# Altium schematic symbol library AnalogDevices.SchLib: 130 symbols (part 2 of 5)
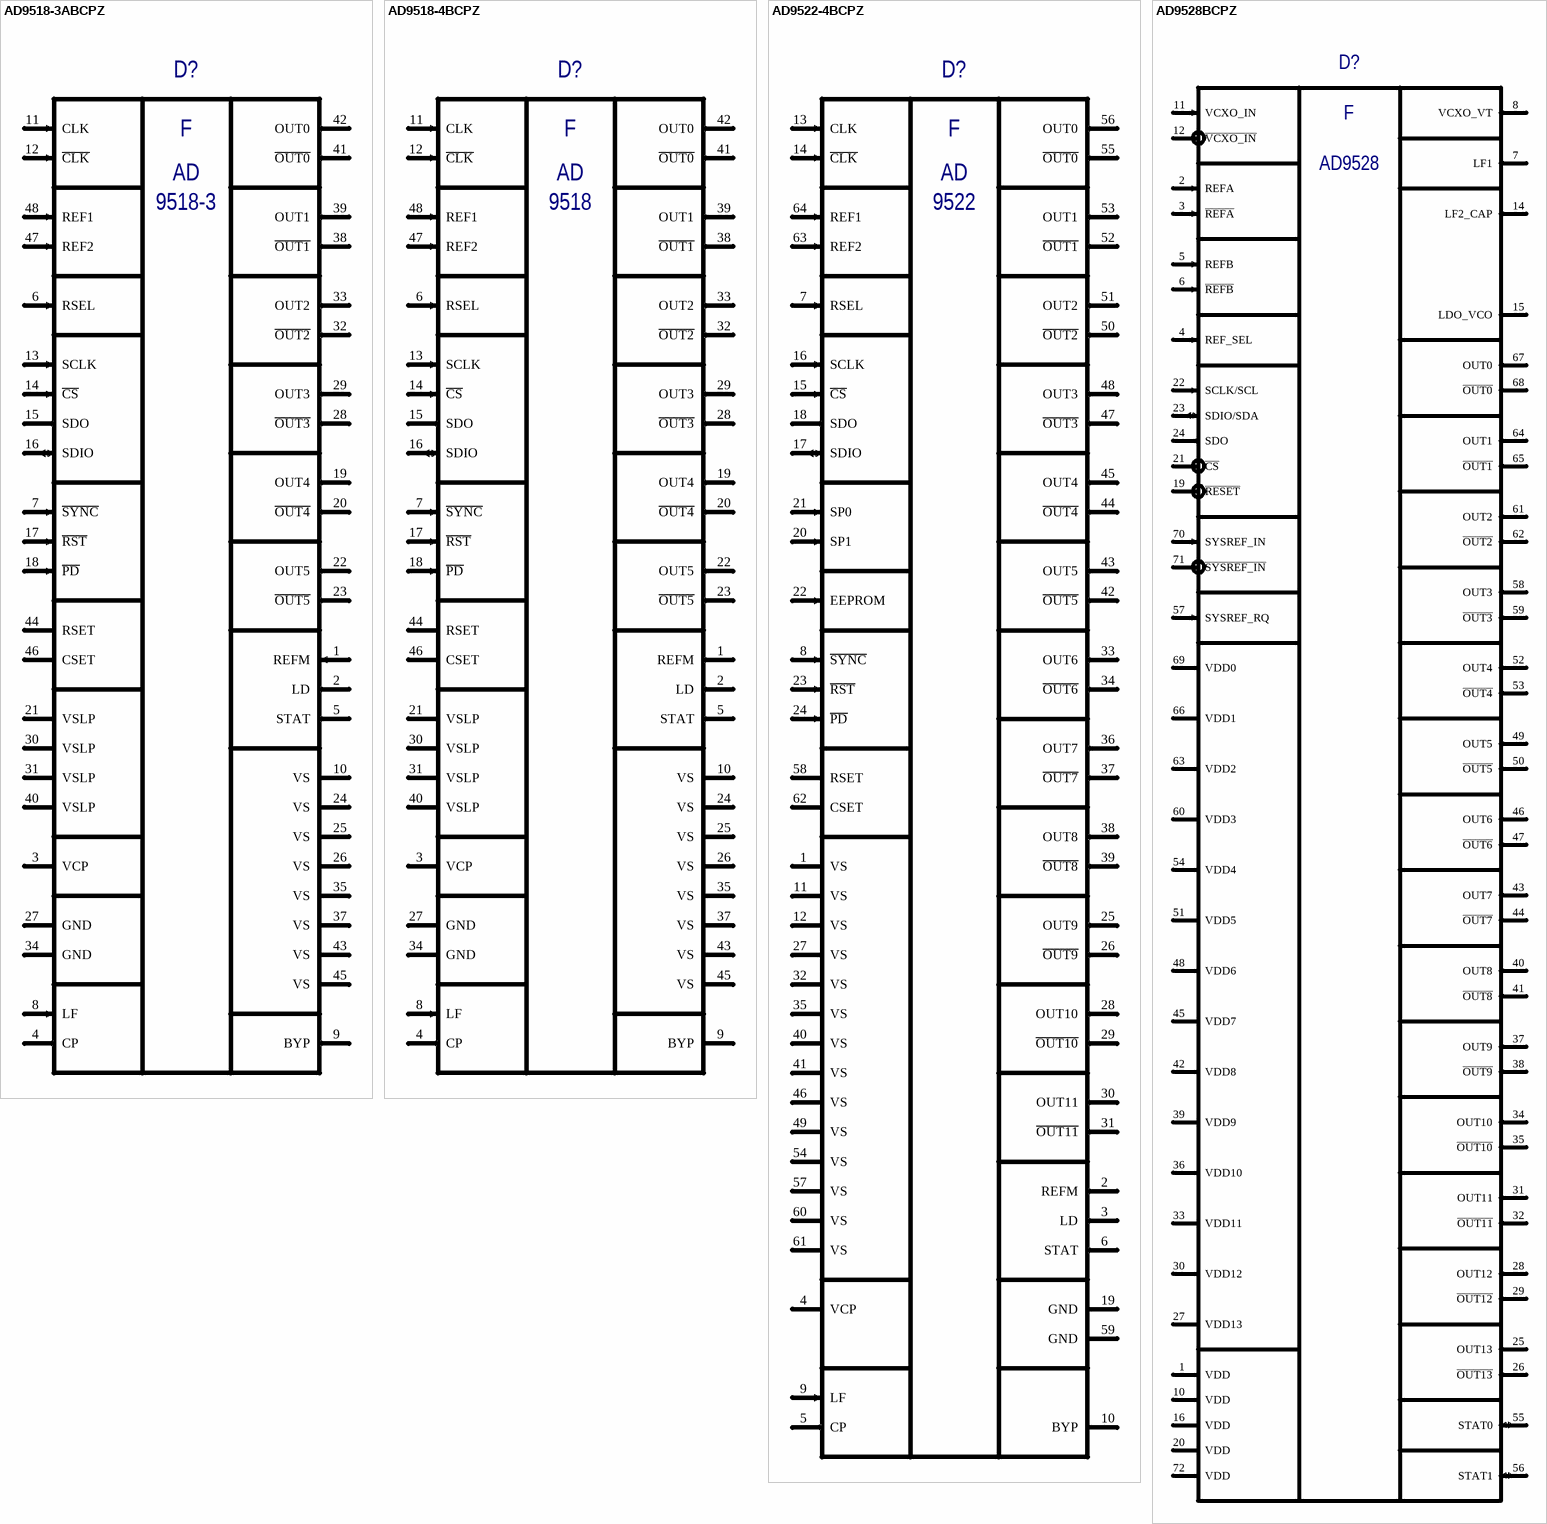
[diagram p22: symbols AD9518-3ABCPZ to AD9528BCPZ]

## AD9528BCPZ
designator D?  (value not drawn)
JESD204B Clock Generator with 14 LVDS/HSTL Outputs; Manufacturer: Analog Devices; Type: Микросхема; SymAuthor: Ерешко П.А.; Package: CP-72-6; ManufacturerPartNumber: AD9528BCPZ
footprint QFN50P1000X1000X100_HS-73N (QFN, 72-Leads, Body 10,00x10,00mm, Pitch 0,50mm, Thermal Pad 5,45x5,45mm, IPC Medium Density)
pins: 1 VDD (power) "3.3 V Supply for the PLL1  Input Section", 2 REFA (in) "Reference Clock Input A", 3 ~{REFA} (in) "Complementary Reference Clock Input A", 4 REF_SEL (in) "Reference Input Select", 5 REFB (in) "Reference Clock Input B", 6 ~{REFB} (in) "Complementary Reference Clock Input B", 7 LF1 (out) "PLL1 External Loop Filter", 8 VCXO_VT (out) "VCXO Control Voltage", 9 NIC hidden "No Internal Connection. The pin can be left floating", 10 VDD (power) "3.3 V Supply for the PLL2 Section", 11 VCXO_IN (in) "PLL1 Oscillator Input", 12 ~{VCXO_IN} (in) "Complementary PLL1 Oscillator Input", 13 NIC hidden "No Internal Connection. The pin can be left floating", 14 LF2_CAP (out) "PLL2 External Loop Filter Capacitor Connection", 15 LDO_VCO "2.5 V LDO Internal Regulator Decoupling for the VCO", 16 VDD (power) "3.3 V Supply for the PLL2 Internal Regulator", 17 NIC hidden "No Internal Connection. The pin can be left floating", 18 NIC hidden "No Internal Connection. The pin can be left floating", 19 ~{RESET} (in) "Digital Input(Active Low). Resets internal logic to default states", 20 VDD (power) "3.3 V Supply for the PLL2 Internal Regulator", 21 ~{CS} (in) "Serial Control Port Chip Select", 22 SCLK/SCL (in) "Serial Control Port Clock Signal", 23 SDIO/SDA (io) "Serial Control Port Bidirectional Serial Data", 24 SDO (out) "Serial Data Output", 25 OUT13 (out) "Square Wave Clocking Output 13", 26 ~{OUT13} (out) "Complementary Square Wave Clocking Output 13", 27 VDD13 (power) "3.3 V Supply for the Output 13 Clock Driver", 28 OUT12 (out) "Square Wave Clocking Output 12", 29 ~{OUT12} (out) "Complementary Square Wave Clocking Output 12", 30 VDD12 (power) "3.3 V Supply for the Output 12 Clock Divider", 31 OUT11 (out) "Square Wave Clocking Output 11", 32 ~{OUT11} (out) "Complementary Square Wave Clocking Output 11", 33 VDD11 (power) "3.3 V Supply for the Output 11 Clock Driver", 34 OUT10 (out) "Square Wave Clocking Output 10", 35 ~{OUT10} (out) "Complementary Square Wave Clocking Output 10", 36 VDD10 (power) "3.3 V Supply for the Output 10 Clock Divider", 37 OUT9 (out) "Square Wave Clocking Output 9", 38 ~{OUT9} (out) "Complementary Square Wave Clocking Output 9", 39 VDD9 (power) "3.3 V Supply for the Output 9 Clock Driver", 40 OUT8 (out) "Square Wave Clocking Output 8", 41 ~{OUT8} (out) "Complementary Square Wave Clocking Output 8", 42 VDD8 (power) "3.3 V Supply for the Output 8 Clock Divider", 43 OUT7 (out) "Square Wave Clocking Output 7", 44 ~{OUT7} (out) "Complementary Square Wave Clocking Output 7", 45 VDD7 (power) "3.3 V Supply for the Output 7 Clock Driver", 46 OUT6 (out) "Square Wave Clocking Output 6", 47 ~{OUT6} (out) "Complementary Square Wave Clocking Output 6", 48 VDD6 (power) "3.3 V Supply for the Output 6 Clock Divider", 49 OUT5 (out) "Square Wave Clocking Output 5", 50 ~{OUT5} (out) "Complementary Square Wave Clocking Output 5", 51 VDD5 (power) "3.3 V Supply for the Output 5 Clock Driver", 52 OUT4 (out) "Square Wave Clocking Output 4", 53 ~{OUT4} (out) "Complementary Square Wave Clocking Output 4", 54 VDD4 (power) "3.3 V Supply for the Output 4 Clock Divider", 55 STAT0 (io) "Lock Detect and Other Status Signals", 56 STAT1 (io) "Lock Detect and Other Status Signals", 57 SYSREF_RQ (in) "SYSREF Request Input Logic Control", 58 OUT3 (out) "Square Wave Clocking Output 3", 59 ~{OUT3} (out) "Complementary Square Wave Clocking Output 3", 60 VDD3 (power) "3.3 V Supply for the Output 3 Clock Driver", 61 OUT2 (out) "Square Wave Clocking Output 2", 62 ~{OUT2} (out) "Complementary Square Wave Clocking Output 2", 63 VDD2 (power) "3.3 V Supply for the Output 2 Clock Divider", 64 OUT1 (out) "Square Wave Clocking Output 1", 65 ~{OUT1} (out) "Complementary Square Wave Clocking Output 1", 66 VDD1 (power) "3.3 V Supply for the Output 1 Clock Driver", 67 OUT0 (out) "Square Wave Clocking Output 0", 68 ~{OUT0} (out) "Complementary Square Wave Clocking Output 0", 69 VDD0 (power) "3.3 V Supply for the Output 0 Clock Divider", 70 SYSREF_IN (in) "External SYSREF Input Clock", 71 ~{SYSREF_IN} (in) "Complementary External SYSREF Input Clock", 72 VDD (power) "3.3 V Supply for the PLL1 Input Section", EPAD (power) hidden to GND "Exposed Pad. Connect to GND"
text: F; AD9528

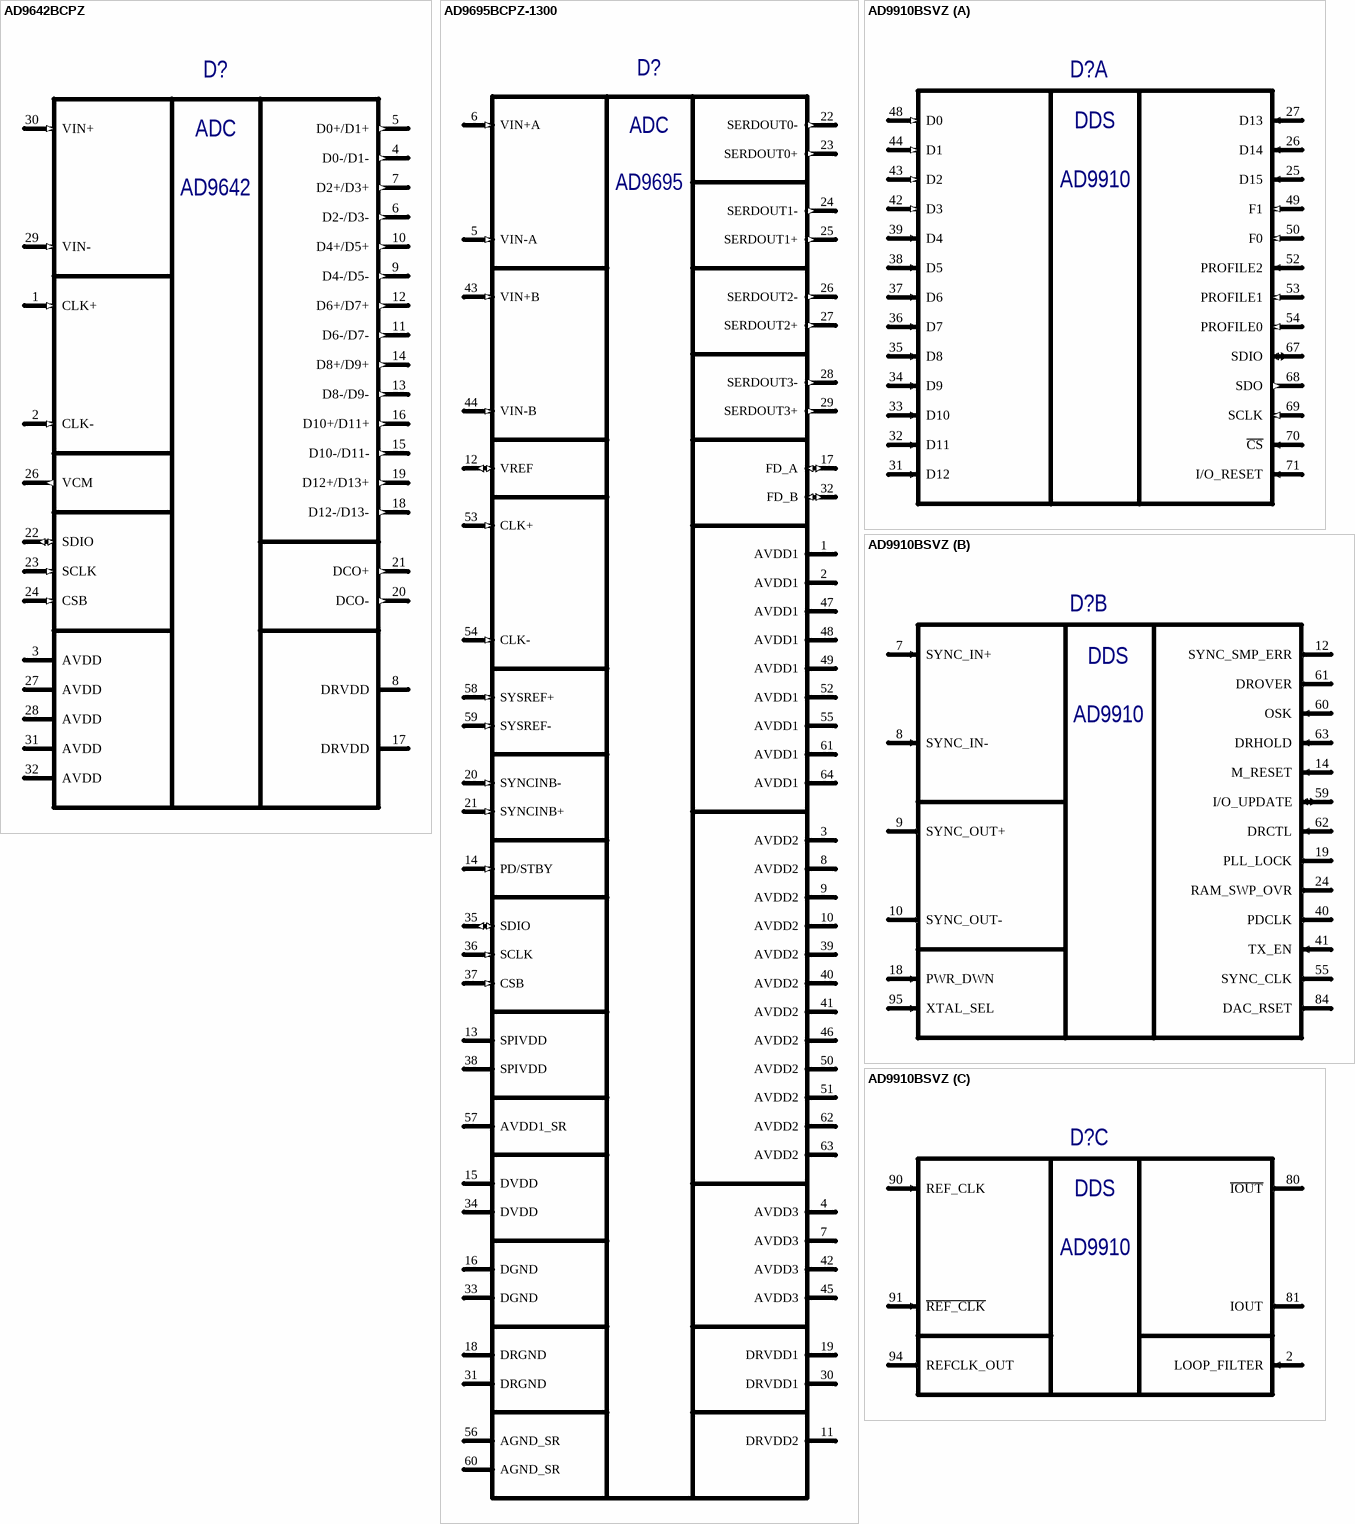
[diagram p5: symbols AD9642BCPZ to AD9910BSVZ]

## AD9642BCPZ
designator D?, comment AD9642BCPZ-250  (value not drawn)
14-Bit, 250 MSPS ADC; Manufacturer: Analog Devices; Type: Микросхема; BCPId: *; Name: *; Package: CP-32-12; ManufacturerPartNumber: AD9642BCPZ-250; HelpURL: *; Price: *; Rem: *; TU/GOST: *
footprint QFN50P500X500X80-33N (QFN, 32-Leads, Body 5,00x5,00mm, Pitch 0,50mm, Thermal Pad 3,75x3,75mm, IPC Medium Density)
pins: 1 CLK+ (in) "ADC Clock Input—True", 2 CLK- (in) "ADC Clock Input—Complement", 3 AVDD (power) "Analog Power Supply (1.8 V Nominal)", 4 D0-/D1- (out) "DDR LVDS Output Data 0/1—Complement", 5 D0+/D1+ (out) "DDR LVDS Output Data 0/1—True", 6 D2-/D3- (out) "DDR LVDS Output Data 2/3—Complement", 7 D2+/D3+ (out) "DDR LVDS Output Data 2/3—True", 8 DRVDD (power) "Digital Output Driver Supply (1.8 V Nominal).", 9 D4-/D5- (out) "DDR LVDS Output Data 4/5—Complement", 10 D4+/D5+ (out) "DDR LVDS Output Data 4/5—True", 11 D6-/D7- (out) "DDR LVDS Output Data 6/7—Complement", 12 D6+/D7+ (out) "DDR LVDS Output Data 6/7—True", 13 D8-/D9- (out) "DDR LVDS Output Data 8/9—Complement", 14 D8+/D9+ (out) "DDR LVDS Output Data 8/9—True", 15 D10-/D11- (out) "DDR LVDS Output Data 10/11—Complement", 16 D10+/D11+ (out) "DDR LVDS Output Data 10/11—True", 17 DRVDD (power) "Digital Output Driver Supply (1.8 V Nominal).", 18 D12-/D13- (out) "DDR LVDS Output Data 12/13—Complement", 19 D12+/D13+ (out) "DDR LVDS Output Data 12/13—True", 20 DCO- (out) "LVDS Data Clock Output—Complement", 21 DCO+ (out) "LVDS Data Clock Output—True", 22 SDIO (io) "SPI Serial Data I/O", 23 SCLK (in) "SPI Serial Clock", 24 CSB (in) "SPI Chip Select (Active Low)", 25 DNC hidden "Do Not Connect", 26 VCM  (out) "Common-Mode Level Bias Output for Analog Inputs", 27 AVDD (power) "Analog Power Supply (1.8 V Nominal)", 28 AVDD (power) "Analog Power Supply (1.8 V Nominal)", 29 VIN- (in) "Differential Analog Input Pin (-)", 30 VIN+ (in) "Differential Analog Input Pin (+)", 31 AVDD (power) "Analog Power Supply (1.8 V Nominal)", 32 AVDD (power) "Analog Power Supply (1.8 V Nominal)", EPAD AGND (power) hidden to GND "Exposed Paddle. The exposed paddle must be connected to AGND."
text: ADC; AD9642

## AD9695BCPZ-1300
designator D?  (value not drawn)
14-Bit, 1300 MSPS, JESD204B, Dual Analog-to-Digital Converter; Manufacturer: Analog Devices; Type: Микросхема; Package: CP-64-17; ManufacturerPartNumber: AD9695BCPZ-1300
footprint QFN50P900X900X80_HS63x63-65N (QFN, 64-Leads, Body 9,00x9,00mm, Pitch 0,50mm, Thermal Pad 6,2x6,2mm, IPC Medium Density)
pins: 1 AVDD1 (power) "Analog Power Supply (0.95 V Nominal)", 2 AVDD1 (power) "Analog Power Supply (0.95 V Nominal)", 3 AVDD2 (power) "Analog Power Supply (1.8 V Nominal)", 4 AVDD3 (power) "Analog Power Supply (2.5 V Nominal)", 5 VIN-A (in) "ADC A Analog Input Pin (-)", 6 VIN+A (in) "ADC A Analog Input Pin (+)", 7 AVDD3 (power) "Analog Power Supply (2.5 V Nominal)", 8 AVDD2 (power) "Analog Power Supply (1.8 V Nominal)", 9 AVDD2 (power) "Analog Power Supply (1.8 V Nominal)", 10 AVDD2 (power) "Analog Power Supply (1.8 V Nominal)", 11 DRVDD2 (power) "Digital Output Driver Supply (1.8 V Nominal).", 12 VREF (io) "Reference Voltage Input (0.50 V)/Do Not Connect", 13 SPIVDD (power) "Digital Power Supply for SPI (1.8 V Nominal)", 14 PD/STBY (in) "Power-down input", 15 DVDD (power) "Digital Power Supply (0.95 V Nominal).", 16 DGND (power) "Digital Control Ground Supply", 17 FD_A (io) "Fast Detect Output for Channel A", 18 DRGND (power) "Digital Driver Ground Supply", 19 DRVDD1 (power) "Digital Output Driver Supply (0.95 V Nominal)", 20 SYNCINB- (in) "Active Low JESD204B LVDS Sync Input True", 21 SYNCINB+ (in) "Active Low JESD204B LVDS/CMOS Sync Input Complement", 22 SERDOUT0- (out) "Lane 0 Output Data Complement", 23 SERDOUT0+ (out) "Lane 0 Output Data True", 24 SERDOUT1- (out) "Lane 1 Output Data Complement", 25 SERDOUT1+ (out) "Lane 1 Output Data True", 26 SERDOUT2- (out) "Lane 2 Output Data Complement", 27 SERDOUT2+ (out) "Lane 2 Output Data True", 28 SERDOUT3- (out) "Lane 3 Output Data Complement", 29 SERDOUT3+ (out) "Lane 3 Output Data True", 30 DRVDD1 (power) "Digital Output Driver Supply (0.95 V Nominal)", 31 DRGND (power) "Digital Driver Ground Supply", 32 FD_B (io) "Fast Detect Output for Channel B", 33 DGND (power) "Digital Control Ground Supply", 34 DVDD (power) "Digital Power Supply (0.95 V Nominal).", 35 SDIO (io) "SPI Serial Data I/O", 36 SCLK (in) "SPI Serial Clock", 37 CSB (in) "SPI Chip Select (Active Low)", 38 SPIVDD (power) "Digital Power Supply for SPI (1.8 V Nominal)", 39 AVDD2 (power) "Analog Power Supply (1.8 V Nominal)", 40 AVDD2 (power) "Analog Power Supply (1.8 V Nominal)", 41 AVDD2 (power) "Analog Power Supply (1.8 V Nominal)", 42 AVDD3 (power) "Analog Power Supply (2.5 V Nominal)", 43 VIN+B (in) "ADC B Analog Input Pin (+)", 44 VIN-B (in) "ADC B Analog Input Pin (-)", 45 AVDD3 (power) "Analog Power Supply (2.5 V Nominal)", 46 AVDD2 (power) "Analog Power Supply (1.8 V Nominal)", 47 AVDD1 (power) "Analog Power Supply (0.95 V Nominal)", 48 AVDD1 (power) "Analog Power Supply (0.95 V Nominal)", 49 AVDD1 (power) "Analog Power Supply (0.95 V Nominal)", 50 AVDD2 (power) "Analog Power Supply (1.8 V Nominal)", 51 AVDD2 (power) "Analog Power Supply (1.8 V Nominal)", 52 AVDD1 (power) "Analog Power Supply (0.95 V Nominal)", 53 CLK+ (in) "ADC Clock Input True", 54 CLK- (in) "ADC Clock Input Complement", 55 AVDD1 (power) "Analog Power Supply (0.95 V Nominal)", 56 AGND_SR (power) "Ground Reference for SYSREF±", 57 AVDD1_SR (power) "Analog Power Supply for SYSREF± (0.95 V Nominal)", 58 SYSREF+ (in) "Active High JESD204B LVDS System Reference Input True", 59 SYSREF- (in) "Active High JESD204B LVDS System Reference Input Complement", 60 AGND_SR (power) "Ground Reference for SYSREF±", 61 AVDD1 (power) "Analog Power Supply (0.95 V Nominal)", 62 AVDD2 (power) "Analog Power Supply (1.8 V Nominal)", 63 AVDD2 (power) "Analog Power Supply (1.8 V Nominal)", 64 AVDD1 (power) "Analog Power Supply (0.95 V Nominal)", EPAD AGND (power) hidden to GND "Analog Ground. Connect the exposed pad to the analog ground plane"
text: ADC; AD9695

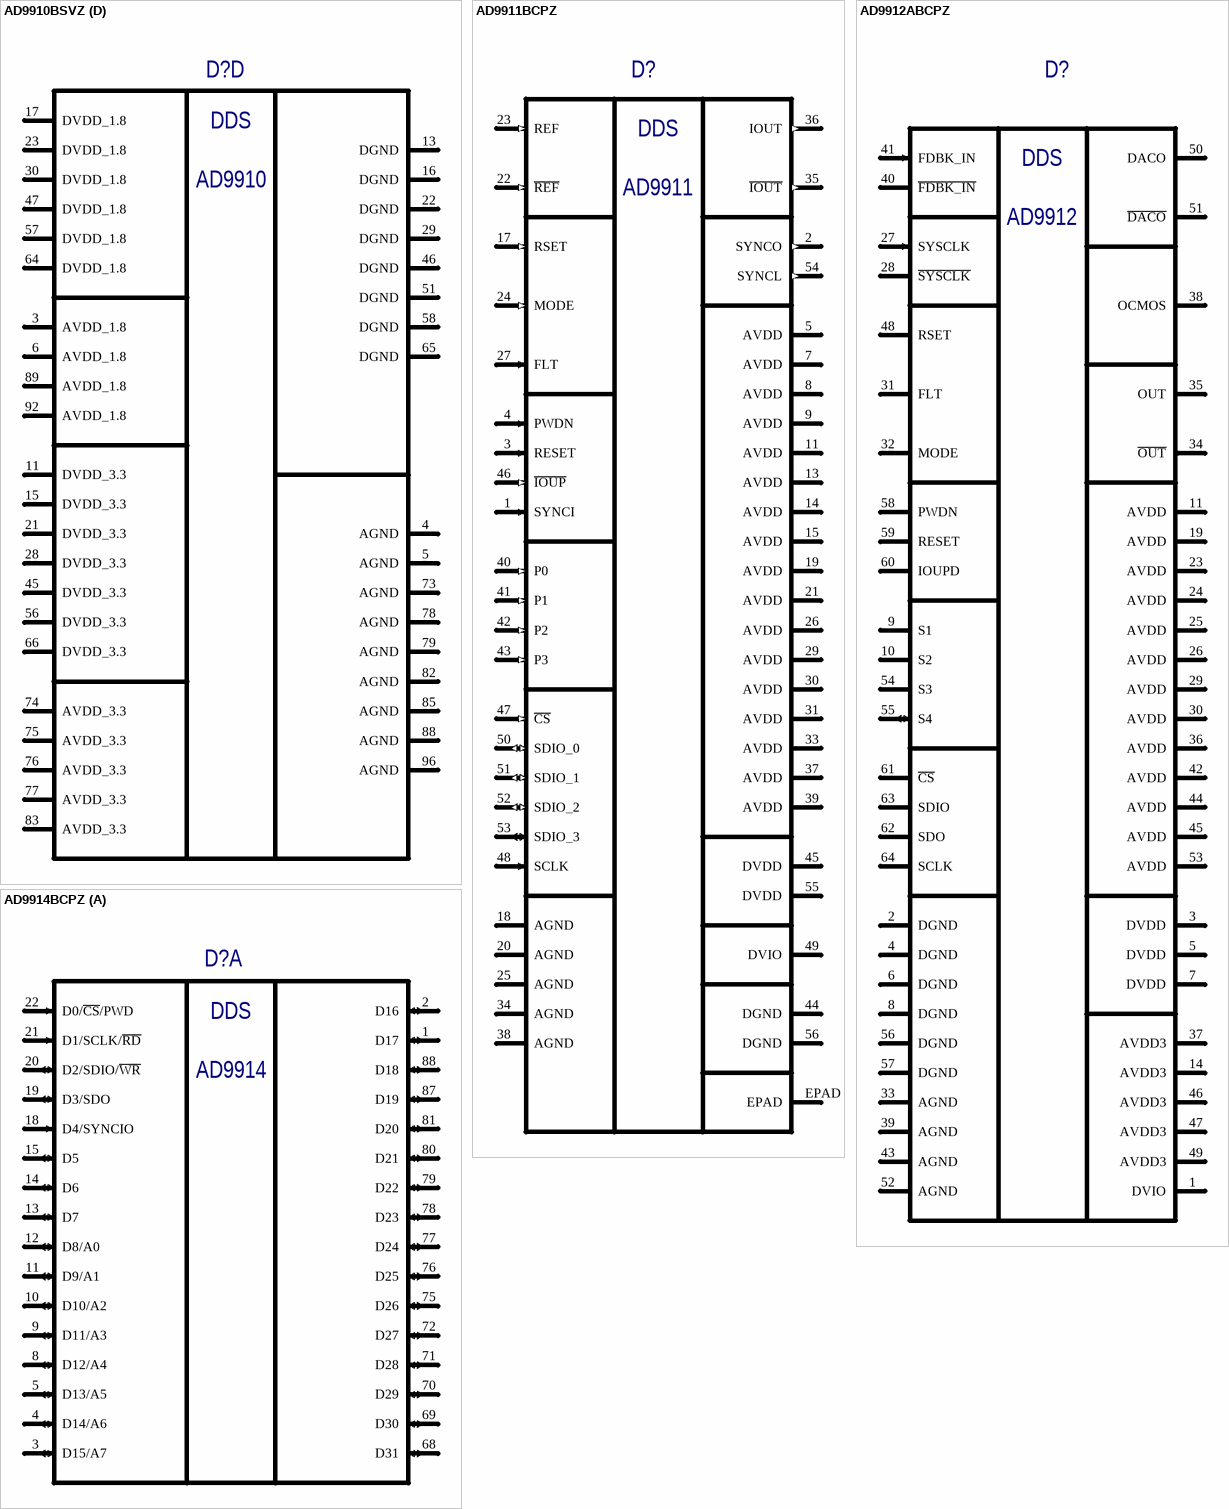
[diagram p6: symbols AD9910BSVZ to AD9914BCPZ]

## AD9910BSVZ
designator D?  (value not drawn)
1 GSPS, 14-Bit, 3.3 V CMOS  Direct Digital Synthesizer; Manufacturer: Analog Devices; Type: Микросхема; SymAuthor: Юдин Д.Г.; BCPId: *; Package: SV-100-4; ManufacturerPartNumber: AD9910BSVZ
footprint TSQFP50P1600X1600X120_HS-101N (TSQFP, 100-Leads, Body 14,00x14,00mm, Pitch 0,50mm, Thermal Pad 5,00x5,00mm, IPC Medium Density)
part A pins: 1 NC hidden, 20 NC hidden, 25 D15 (in) "Parallel Input Bus (Active High).", 26 D14 (in) "Parallel Input Bus (Active High).", 27 D13 (in) "Parallel Input Bus (Active High).", 31 D12 (in) "Parallel Input Bus (Active High).", 32 D11 (in) "Parallel Input Bus (Active High).", 33 D10 (in) "Parallel Input Bus (Active High).", 34 D9 (in) "Parallel Input Bus (Active High).", 35 D8 (in) "Parallel Input Bus (Active High).", 36 D7 (in) "Parallel Input Bus (Active High).", 37 D6 (in) "Parallel Input Bus (Active High).", 38 D5 (in) "Parallel Input Bus (Active High).", 39 D4 (in) "Parallel Input Bus (Active High).", 42 D3 (in) "Parallel Input Bus (Active High).", 43 D2 (in) "Parallel Input Bus (Active High).", 44 D1 (in) "Parallel Input Bus (Active High).", 48 D0 (in) "Parallel Input Bus (Active High).", 49 F1 (in) "Modulation Format Pins.", 50 F0 (in) "Modulation Format Pins.", 52 PROFILE2 (in) "Profile Select Pins. Digital inputs (active high).", 53 PROFILE1 (in) "Profile Select Pins. Digital inputs (active high).", 54 PROFILE0 (in) "Profile Select Pins. Digital inputs (active high).", 67 SDIO (io) "Serial Data Input/Output. Digital input/output (active high).", 68 SDO (out) "Serial Data Output. Digital output (active high).", 69 SCLK (in) "Serial Data Clock. Digital clock (rising edge on write, falling edge on read).", 70 ~{CS} (in) "Chip Select. Digital input (active low).", 71 I/O_RESET (in) "Input/Output Reset. Digital input (active high).", 72 NC hidden, 86 NC hidden, 87 NC hidden, 93 NC hidden, 97 NC hidden, 98 NC hidden, 99 NC hidden, 100 NC hidden
part B pins: 7 SYNC_IN+ (in) "Synchronization Signal (LVDS), Digital Input (Rising Edge Active).", 8 SYNC_IN- (in) "Synchronization Signal (LVDS), Digital Input.", 9 SYNC_OUT+ (out) "Synchronization Signal (LVDS), Digital Output (Rising Edge Active).", 10 SYNC_OUT- (out) "Synchronization Signal (LVDS), Digital Output.", 12 SYNC_SMP_ERR (out) "Clock Output. Digital output.", 14 M_RESET (in) "Master Reset, Digital Input (Active High).", 18 PWR_DWN  (in) "External Power-Down.", 19 PLL_LOCK (out) "Clock Multiplier PLL Lock, Digital Output (Active High).", 24 RAM_SWP_OVR (out) "RAM Sweep Over, Digital Output (Active High).", 40 PDCLK (out) "Parallel Data Clock. This is the digital output (clock).", 41 TX_EN (in) "Transmit Enable. Digital input (active high).", 55 SYNC_CLK (out) "Output Clock Divided-By-Four. A digital output (clock).", 59 I/O_UPDATE (io) "Input/Output Update.", 60 OSK (in) "Output Shift Keying.", 61 DROVER (out) "Digital Ramp Over. Digital output (active high).", 62 DRCTL (in) "Digital Ramp Control. Digital input (active high).", 63 DRHOLD (in) "Digital Ramp Hold. Digital input (active high).", 84 DAC_RSET (out) "Analog Reference Pin.", 95 XTAL_SEL  (in) "Crystal Select (1.8 V Logic)."
part C pins: 2 LOOP_FILTER (in) "PLL Loop Filter Compensation Pin.", 80 ~{IOUT} (out) "Open-Drain DAC Complementary Output Source.", 81 IOUT (out) "Open-Drain DAC Output Source.", 90 REF_CLK (in) "Reference Clock Input. Analog input.", 91 ~{REF_CLK} (in) "Reference Clock Input. Analog input.", 94 REFCLK_OUT (out) "Crystal Output. Analog output."
part D pins: 3 AVDD_1.8 (power) "Analog Core VDD, 1.8 V Analog Supplies.", 4 AGND (power) "Analog Ground.", 5 AGND (power) "Analog Ground.", 6 AVDD_1.8 (power) "Analog Core VDD, 1.8 V Analog Supplies.", 11 DVDD_3.3 (power) "Digital Input/Output VDD, 3.3 V Digital Supplies.", 13 DGND (power) "Digital Ground.", 15 DVDD_3.3 (power) "Digital Input/Output VDD, 3.3 V Digital Supplies.", 16 DGND (power) "Digital Ground.", 17 DVDD_1.8 (power) "Digital Core VDD, 1.8 V Digital Supplies.", 21 DVDD_3.3 (power) "Digital Input/Output VDD, 3.3 V Digital Supplies.", 22 DGND (power) "Digital Ground.", 23 DVDD_1.8 (power) "Digital Core VDD, 1.8 V Digital Supplies.", 28 DVDD_3.3 (power) "Digital Input/Output VDD, 3.3 V Digital Supplies.", 29 DGND (power) "Digital Ground.", 30 DVDD_1.8 (power) "Digital Core VDD, 1.8 V Digital Supplies.", 45 DVDD_3.3 (power) "Digital Input/Output VDD, 3.3 V Digital Supplies.", 46 DGND (power) "Digital Ground.", 47 DVDD_1.8 (power) "Digital Core VDD, 1.8 V Digital Supplies.", 51 DGND (power) "Digital Ground.", 56 DVDD_3.3 (power) "Digital Input/Output VDD, 3.3 V Digital Supplies.", 57 DVDD_1.8 (power) "Digital Core VDD, 1.8 V Digital Supplies.", 58 DGND (power) "Digital Ground.", 64 DVDD_1.8 (power) "Digital Core VDD, 1.8 V Digital Supplies.", 65 DGND (power) "Digital Ground.", 66 DVDD_3.3 (power) "Digital Input/Output VDD, 3.3 V Digital Supplies.", 73 AGND (power) "Analog Ground.", 74 AVDD_3.3 (power) "Analog DAC VDD, 3.3 V Analog Supplies.", 75 AVDD_3.3 (power) "Analog DAC VDD, 3.3 V Analog Supplies.", 76 AVDD_3.3 (power) "Analog DAC VDD, 3.3 V Analog Supplies.", 77 AVDD_3.3 (power) "Analog DAC VDD, 3.3 V Analog Supplies.", 78 AGND (power) "Analog Ground.", 79 AGND (power) "Analog Ground.", 82 AGND (power) "Analog Ground.", 83 AVDD_3.3 (power) "Analog DAC VDD, 3.3 V Analog Supplies.", 85 AGND (power) "Analog Ground.", 88 AGND (power) "Analog Ground.", 89 AVDD_1.8 (power) "Analog Core VDD, 1.8 V Analog Supplies.", 92 AVDD_1.8 (power) "Analog Core VDD, 1.8 V Analog Supplies.", 96 AGND (power) "Analog Ground.", EPAD (power) hidden to GND "Exposed Paddle. The exposed paddle must be connected to GND."
part A text: DDS; AD9910
part B text: DDS; AD9910
part C text: DDS; AD9910
part D text: DDS; AD9910

## AD9911BCPZ
designator D?  (value not drawn)
500 MSPS Direct Digital Synthesizer; Manufacturer: Analog Devices; Type: Микросхема; BCPId: *; Name: *; Package: CP-56-1; ManufacturerPartNumber: AD9911BCPZ; HelpURL: *; Price: *; Rem: *; TU/GOST: *
footprint QFN50P800X800X100-57N (QFN, 56-Leads, Body 8,00x8,00mm, Pitch 0,50mm, Thermal Pad 6,25x6,25mm, IPC Medium Density)
pins: 1 SYNCI (in) "Synchronizes Multiple AD9911 Devices", 2 SYNCO (out) "Synchronizes Multiple AD9911 Devices", 3 RESET (in) "Active High Reset Pin", 4 PWDN (in) "External Power-Down Control", 5 AVDD (power) "Analog Power Supply Pins (1.8 V)", 6 NC hidden "No Connection", 7 AVDD (power) "Analog Power Supply Pins (1.8 V)", 8 AVDD (power) "Analog Power Supply Pins (1.8 V)", 9 AVDD (power) "Analog Power Supply Pins (1.8 V)", 10 NC hidden "No Connection", 11 AVDD (power) "Analog Power Supply Pins (1.8 V)", 12 NC hidden "No Connection", 13 AVDD (power) "Analog Power Supply Pins (1.8 V)", 14 AVDD (power) "Analog Power Supply Pins (1.8 V)", 15 AVDD (power) "Analog Power Supply Pins (1.8 V)", 16 NC hidden "No Connection", 17 RSET (in) "Establishes the Reference Current for the DAC", 18 AGND (power) "Analog Ground Pins", 19 AVDD (power) "Analog Power Supply Pins (1.8 V)", 20 AGND (power) "Analog Ground Pins", 21 AVDD (power) "Analog Power Supply Pins (1.8 V)", 22 ~{REF} (in) "Complementary Reference Clock/Oscillator Input", 23 REF (in) "Reference Clock/Oscillator Input", 24 MODE (in) "Control Pin for the Oscillator", 25 AGND (power) "Analog Ground Pins", 26 AVDD (power) "Analog Power Supply Pins (1.8 V)", 27 FLT (in) "Connects to the External Zero Compensation Network of the PLL Loop Filter", 28 NC hidden "No Connection", 29 AVDD (power) "Analog Power Supply Pins (1.8 V)", 30 AVDD (power) "Analog Power Supply Pins (1.8 V)", 31 AVDD (power) "Analog Power Supply Pins (1.8 V)", 32 NC hidden "No Connection", 33 AVDD (power) "Analog Power Supply Pins (1.8 V)", 34 AGND (power) "Analog Ground Pins", 35 ~{IOUT} (out) "Complementary DAC Output", 36 IOUT (out) "True DAC Output", 37 AVDD (power) "Analog Power Supply Pins (1.8 V)", 38 AGND (power) "Analog Ground Pins", 39 AVDD (power) "Analog Power Supply Pins (1.8 V)", 40 P0 (in) "These data pins are used for modulation", 41 P1 (in) "These data pins are used for modulation", 42 P2 (in) "These data pins are used for modulation", 43 P3 (in) "These data pins are used for modulation", 44 DGND (power) "Digital Power Ground Pins", 45 DVDD (power) "Digital Power Supply Pins (1.8 V)", 46 ~{IOUP} (in) "A rising edge triggers data transfer from the I/O port buffer to active registers", 47 ~{CS} (in) "The active low chip select allows multiple devices to share a common I/O bus (SPI)", 48 SCLK (in) "Data Clock for I/O Operations", 49 DVIO (power) "3.3 V Digital Power Supply for SPI Port and Digital I/O", 50 SDIO_0 (io) "Data pin SDIO_0 is dedicated to the I/O port only", 51 SDIO_1 (io) "Data pins SDIO_1:3 can be used for the I/O port", 52 SDIO_2 (io) "Data pins SDIO_1:3 can be used for the I/O port", 53 SDIO_3 (io) "Data pins SDIO_1:3 can be used for the I/O port", 54 SYNCL (out) "The SYNC_CLK, which runs at ? the system clock rate, can be disabled", 55 DVDD (power) "Digital Power Supply Pins (1.8 V)", 56 DGND (power) "Digital Power Ground Pins", EPAD (power) "Exposed Paddle. The exposed paddle must be connected to AGND."
text: DDS; AD9911

## AD9912ABCPZ
designator D?  (value not drawn)
1 GSPS Direct Digital Synthesizer with 14-bit DAC; Manufacturer: Analog Devices; Type: Микросхема; SymAuthor: Ерешко П.А.; BCPId: *; Name: *; Package: CP-64-7; ManufacturerPartNumber: AD9912ABCPZ; HelpURL: *; Price: *; Rem: *; TU/GOST: *
footprint QFN50P900X900X100-65N (QFN, 64-Leads, Body 9,0x9,0mm (max), Pitch 0,50mm, IPC Medium Density)
footprint QFN50P900X900X100-65N - HS1 (QFN, 64-Leads, Body 9,0x9,0mm (max), Pitch 0,50mm, IPC Medium Density)
pins: 1 DVIO "I/O Digital Supply", 2 DGND "Digital Ground", 3 DVDD "Digital Supply", 4 DGND "Digital Ground", 5 DVDD "Digital Supply", 6 DGND "Digital Ground", 7 DVDD "Digital Supply", 8 DGND "Digital Ground", 9 S1 "Start-Up Configuration Pins", 10 S2 "Start-Up Configuration Pins", 11 AVDD "Analog Supply. Connect to a nominal 1.8 V supply", 12 NC hidden "No Connection", 13 NC hidden "No Connection", 14 AVDD3 "Analog Supply. Connect to a nominal 3.3 V supply", 15 NC hidden "No Connection", 16 NC hidden "No Connection", 17 NC hidden "No Connection", 18 NC hidden "No Connection", 19 AVDD "Analog Supply. Connect to a nominal 1.8 V supply", 20 NC hidden "No Connection", 21 NC hidden "No Connection", 22 NC hidden "No Connection", 23 AVDD "Analog Supply. Connect to a nominal 1.8 V supply", 24 AVDD "Analog Supply. Connect to a nominal 1.8 V supply", 25 AVDD "Analog Supply. Connect to a nominal 1.8 V supply", 26 AVDD "Analog Supply. Connect to a nominal 1.8 V supply", 27 SYSCLK (in) "System Clock Input", 28 ~{SYSCLK} "Complementary System Clock", 29 AVDD "Analog Supply. Connect to a nominal 1.8 V supply", 30 AVDD "Analog Supply. Connect to a nominal 1.8 V supply", 31 FLT "System Clock Multiplier Loop Filter", 32 MODE "Clock Mode Select", 33 AGND "Analog Ground", 34 ~{OUT} (out) "Complementary HSTL Output", 35 OUT "HSTL Output", 36 AVDD "Analog Supply. Connect to a nominal 1.8 V supply", 37 AVDD3 "Analog Supply for CMOS Output Driver. This pin is normally 3.3 V but can be 1.8 V", 38 OCMOS "CMOS Output", 39 AGND "Analog Ground", 40 ~{FDBK_IN} "Complementary Feedback Input", 41 FDBK_IN (in) "Feedback Input", 42 AVDD "Analog Supply. Connect to a nominal 1.8 V supply", 43 AGND "Analog Ground", 44 AVDD "Analog Supply. Connect to a nominal 1.8 V supply", 45 AVDD "Analog Supply. Connect to a nominal 1.8 V supply", 46 AVDD3 "Analog Supply. Connect to a nominal 3.3 V supply", 47 AVDD3 "Analog Supply. Connect to a nominal 3.3 V supply", 48 RSET "DAC Output Current Setting Resistor", 49 AVDD3 "Analog Supply. Connect to a nominal 3.3 V supply", 50 DACO "DAC Output", 51 ~{DACO} "Complementary DAC Output", 52 AGND "Analog Ground", 53 AVDD "Analog Supply. Connect to a nominal 1.8 V supply", 54 S3 "Start-Up Configuration Pins", 55 S4 (io) "Start-Up Configuration Pins", 56 DGND "Digital Ground", 57 DGND "Digital Ground", 58 PWDN "Power-Down", 59 RESET "Chip Reset", 60 IOUPD "I/O Update", 61 ~{CS} "Chip Select", 62 SDO "Serial Data Output", 63 SDIO "Serial Data Input/Output", 64 SCLK "Serial Programming Clock", EPAD GND hidden to GND "The exposed die pad must be connected to GND"
text: DDS; AD9912

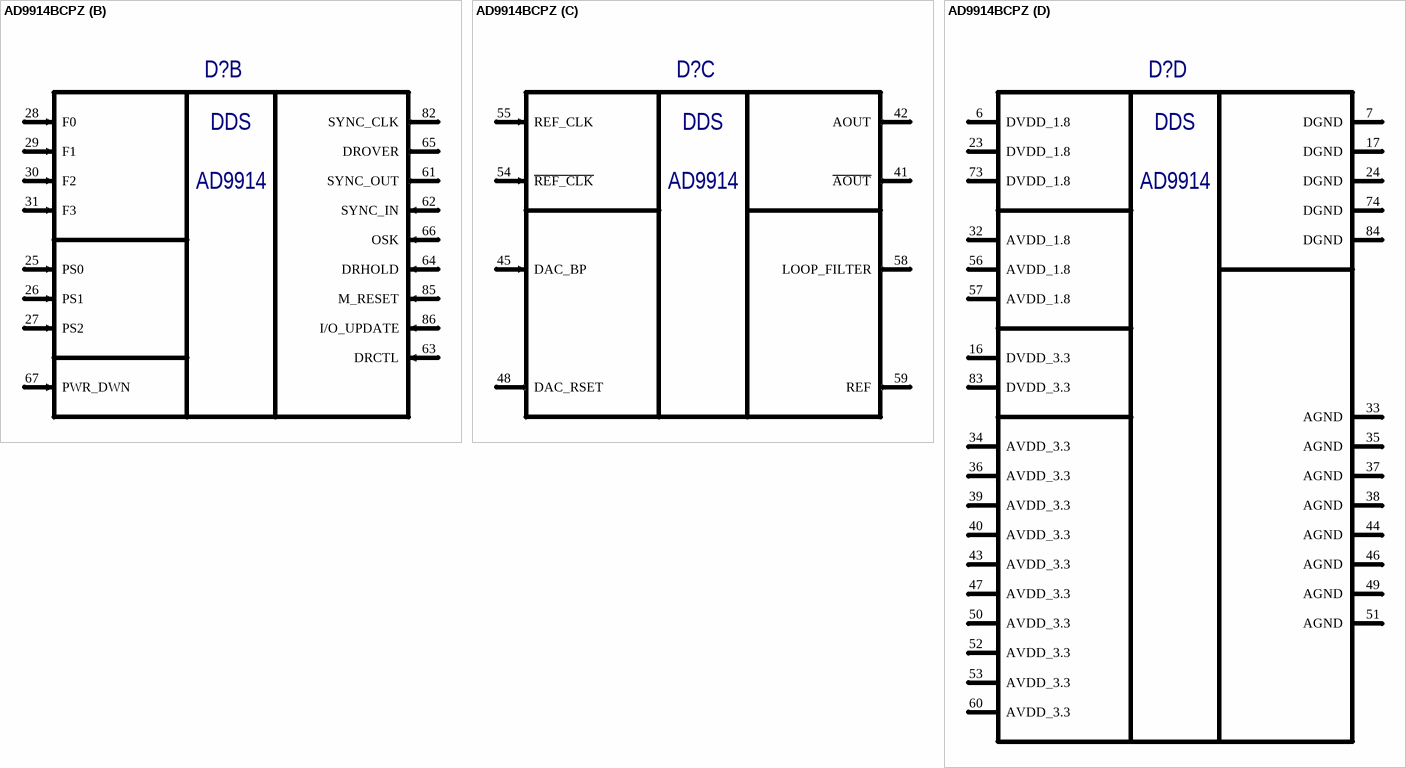
[diagram p7: symbol AD9914BCPZ]

## AD9914BCPZ
designator D?  (value not drawn)
500 MSPS Direct Digital Synthesizer; Manufacturer: Analog Devices; Type: Микросхема; SymAuthor: Юдин Д.Г.; BCPId: *; Package: CP-88-5; ManufacturerPartNumber: AD9914BCPZ
footprint QFN50P1200X1200X90_HS68X68-89N (QFN, 88-Leads, Body 12,00x12,00mm, Pitch 0,50mm, Thermal Pad 6,8x6,8mm, IPC Medium Density)
part A pins: 1 D17 (io) "Parallel Port Pins.", 2 D16 (io) "Parallel Port Pins.", 3 D15/A7 (io) "Parallel Port Pin/Address Line.", 4 D14/A6 (io) "Parallel Port Pin/Address Line.", 5 D13/A5 (io) "Parallel Port Pin/Address Line.", 8 D12/A4 (io) "Parallel Port Pin/Address Line.", 9 D11/A3 (io) "Parallel Port Pin/Address Line.", 10 D10/A2 (io) "Parallel Port Pin/Address Line.", 11 D9/A1 (io) "Parallel Port Pin/Address Line.", 12 D8/A0 (io) "Parallel Port Pin/Address Line.", 13 D7 (io) "Parallel Port Pins.", 14 D6 (io) "Parallel Port Pins.", 15 D5 (io) "Parallel Port Pins.", 18 D4/SYNCIO (in) "Parallel Port Pin/Serial Port Synchronization Pin.", 19 D3/SDO (io) "Parallel Port Pin/Serial Data Output.", 20 D2/SDIO/~{WR} (io) "Parallel Port Pin/Serial Data Input and Output/Write Input.", 21 D1/SCLK/~{RD} (in) "Parallel Port Pin/Serial Clock/Read Input.", 22 D0/~{CS}/PWD (in) "Parallel Port Pin/Chip Select/Parallel Width.", 68 D31 (io) "Parallel Port Pins.", 69 D30 (io) "Parallel Port Pins.", 70 D29 (io) "Parallel Port Pins.", 71 D28 (io) "Parallel Port Pins.", 72 D27 (io) "Parallel Port Pins.", 75 D26 (io) "Parallel Port Pins.", 76 D25 (io) "Parallel Port Pins.", 77 D24 (io) "Parallel Port Pins.", 78 D23 (io) "Parallel Port Pins.", 79 D22 (io) "Parallel Port Pins.", 80 D21 (io) "Parallel Port Pins.", 81 D20 (io) "Parallel Port Pins.", 87 D19 (io) "Parallel Port Pins.", 88 D18 (io) "Parallel Port Pins."
part B pins: 25 PS0 (in) "Profile Select Pins.", 26 PS1 (in) "Profile Select Pins.", 27 PS2 (in) "Profile Select Pins.", 28 F0 (in) "Function Pins.", 29 F1 (in) "Function Pins.", 30 F2 (in) "Function Pins.", 31 F3 (in) "Function Pins.", 61 SYNC_OUT (out) "Digital Synchronization Output.", 62 SYNC_IN (in) "Digital Synchronization Input.", 63 DRCTL (in) "Ramp Control. Digital input (active high).", 64 DRHOLD (in) "Ramp Hold. Digital input (active high).", 65 DROVER (out) "Ramp Hold. Digital input (active high). Pauses the sweep when active.", 66 OSK (in) "Output Shift Keying.", 67 PWR_DWN  (in) "External Power-Down.", 82 SYNC_CLK (out) "Clock Output. Digital output.", 85 M_RESET (in) "Master Reset.", 86 I/O_UPDATE (in) "Input/Output Update."
part C pins: 41 ~{AOUT} (out) "DAC Complementary Output Source.", 42 AOUT (out) "DAC Output Source.", 45 DAC_BP (in) "DAC Bypass Pin.", 48 DAC_RSET (out) "Analog Reference.", 54 ~{REF_CLK} (in) "Complementary Reference Clock Input. Analog input.", 55 REF_CLK (in) "Reference Clock Input. Analog input.", 58 LOOP_FILTER (out) "External PLL Loop Filter Node.", 59 REF (out) "Local PLL Reference Supply."
part D pins: 6 DVDD_1.8 (power) "Digital Core Supplies (1.8 V).", 7 DGND (power) "Digital Ground.", 16 DVDD_3.3 (power) "Digital Core Supplies (1.8 V).", 17 DGND (power) "Digital Ground.", 23 DVDD_1.8 (power) "Digital Core Supplies (1.8 V).", 24 DGND (power) "Digital Ground.", 32 AVDD_1.8 (power) "Analog Core Supplies (1.8 V).", 33 AGND (power) "Analog Ground.", 34 AVDD_3.3 (power) "Analog DAC Supplies (3.3 V).", 35 AGND (power) "Analog Ground.", 36 AVDD_3.3 (power) "Analog DAC Supplies (3.3 V).", 37 AGND (power) "Analog Ground.", 38 AGND (power) "Analog Ground.", 39 AVDD_3.3 (power) "Analog DAC Supplies (3.3 V).", 40 AVDD_3.3 (power) "Analog DAC Supplies (3.3 V).", 43 AVDD_3.3 (power) "Analog DAC Supplies (3.3 V).", 44 AGND (power) "Analog Ground.", 46 AGND (power) "Analog Ground.", 47 AVDD_3.3 (power) "Analog DAC Supplies (3.3 V).", 49 AGND (power) "Analog Ground.", 50 AVDD_3.3 (power) "Analog DAC Supplies (3.3 V).", 51 AGND (power) "Analog Ground.", 52 AVDD_3.3 (power) "Analog DAC Supplies (3.3 V).", 53 AVDD_3.3 (power) "Analog DAC Supplies (3.3 V).", 56 AVDD_1.8 (power) "Analog Core Supplies (1.8 V).", 57 AVDD_1.8 (power) "Analog Core Supplies (1.8 V).", 60 AVDD_3.3 (power) "Analog DAC Supplies (3.3 V).", 73 DVDD_1.8 (power) "Digital Core Supplies (1.8 V).", 74 DGND (power) "Digital Ground.", 83 DVDD_3.3 (power) "Digital Core Supplies (1.8 V).", 84 DGND (power) "Digital Ground.", EPAD (power) hidden to GND "Exposed Paddle. The exposed paddle must be connected to GND."
part A text: DDS; AD9914
part B text: DDS; AD9914
part C text: DDS; AD9914
part D text: DDS; AD9914

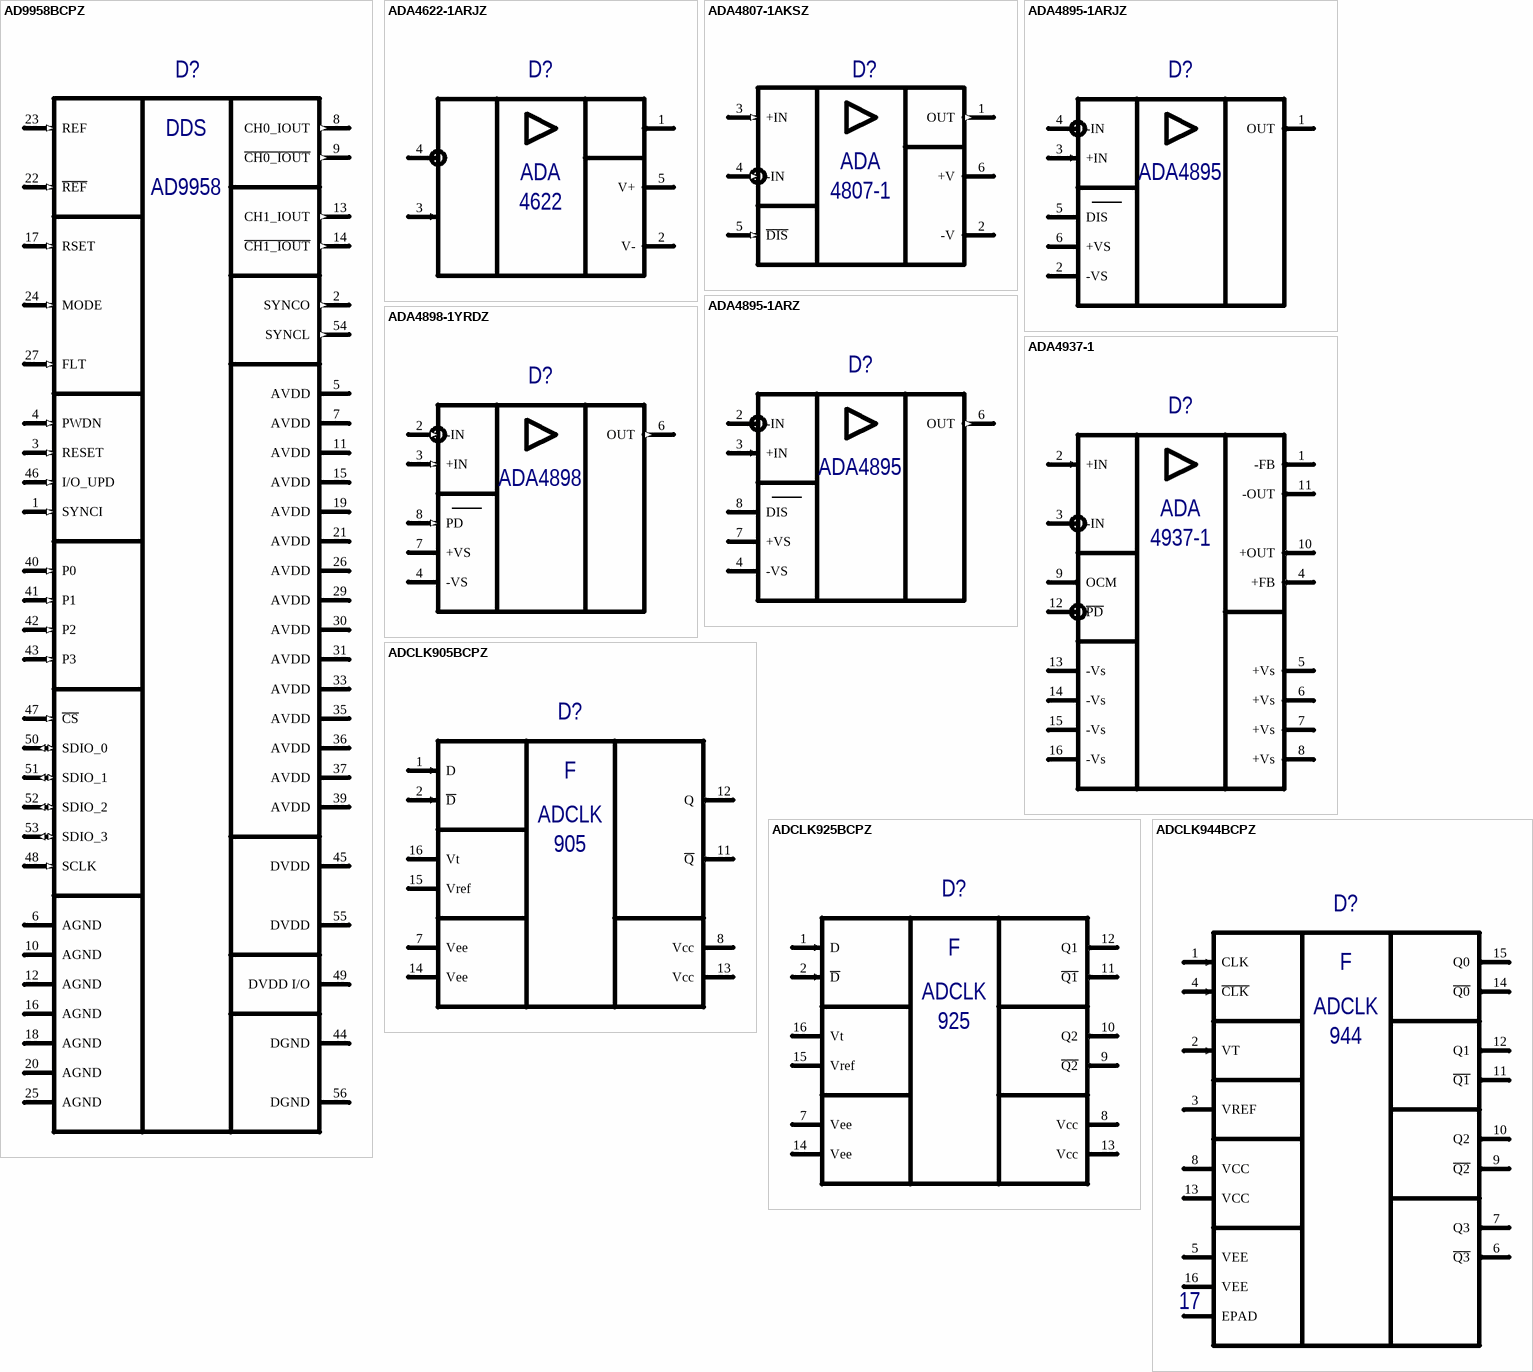
[diagram p8: symbols AD9958BCPZ to ADCLK944BCPZ]

## AD9958BCPZ
designator D?  (value not drawn)
2-Channel, 500 MSPS DDS  with 10-Bit DACs; Manufacturer: Analog Devices; Type: Микросхема; SymAuthor: Юдин Д.Г.; BCPId: *; Name: *; Package: CP-56-1; ManufacturerPartNumber: AD9958BCPZ; HelpURL: *; Price: *; Rem: *; TU/GOST: *
footprint QFN50P800X800X100-57N (QFN, 56-Leads, Body 8,00x8,00mm, Pitch 0,50mm, Thermal Pad 6,25x6,25mm, IPC Medium Density)
pins: 1 SYNCI (in) "Synchronizes Multiple AD9958 Devices", 2 SYNCO (out) "Synchronizes Multiple AD9958 Devices", 3 RESET (in) "Active High Reset Pin", 4 PWDN (in) "External Power-Down Control", 5 AVDD (power) "Analog Power Supply Pin (1.8 V)", 6 AGND (power) "Analog Ground Pin.", 7 AVDD (power) "Analog Power Supply Pin (1.8 V)", 8 CH0_IOUT (out) "True DAC Output. Terminates into AVDD.", 9 ~{CH0_IOUT} (out) "Complementary DAC Output. Terminates into AVDD.", 10 AGND (power) "Analog Ground Pin.", 11 AVDD (power) "Analog Power Supply Pin (1.8 V)", 12 AGND (power) "Analog Ground Pin.", 13 CH1_IOUT (out) "True DAC Output. Terminates into AVDD.", 14 ~{CH1_IOUT} (out) "Complementary DAC Output. Terminates into AVDD.", 15 AVDD (power) "Analog Power Supply Pin (1.8 V)", 16 AGND (power) "Analog Ground Pin.", 17 RSET (in) "Establishes the Reference Current for All DACs. A 1.91 kΩ resistor (nominal) is connected from Pin 17 to AGND.", 18 AGND (power) "Analog Ground Pin", 19 AVDD (power) "Analog Power Supply Pin (1.8 V)", 20 AGND (power) "Analog Ground Pin", 21 AVDD (power) "Analog Power Supply Pin (1.8 V)", 22 ~{REF} (in) "Complementary Reference Clock/Oscillator Input.", 23 REF (in) "Reference Clock/Oscillator Input.", 24 MODE (in) "Control Pin for the Oscillator Section.", 25 AGND (power) "Analog Ground Pin", 26 AVDD (power) "Analog Power Supply Pin (1.8 V)", 27 FLT (in) "Connects to the external zero compensation network of the PLL loop filter.", 28 NC hidden "No Connection.", 29 AVDD (power) "Analog Power Supply Pin (1.8 V)", 30 AVDD (power) "Analog Power Supply Pin (1.8 V)", 31 AVDD (power) "Analog Power Supply Pin (1.8 V)", 32 NC hidden "No Connection", 33 AVDD (power) "Analog Power Supply Pin (1.8 V)", 34 NC hidden "No Connection.", 35 AVDD (power) "Analog Power Supply Pin (1.8 V)", 36 AVDD (power) "Analog Power Supply Pin (1.8 V)", 37 AVDD (power) "Analog Power Supply Pin (1.8 V)", 38 NC hidden "No Connection.", 39 AVDD (power) "Analog Power Supply Pin (1.8 V)", 40 P0 (in) "Data pins used for modulation (FSK, PSK, ASK), to start/stop for the sweep   accumulators, or used to ramp up/ramp down the output amplitude.", 41 P1 (in) "Data pins used for modulation (FSK, PSK, ASK), to start/stop for the sweep   accumulators, or used to ramp up/ramp down the output amplitude.", 42 P2 (in) "Data pins used for modulation (FSK, PSK, ASK), to start/stop for the sweep   accumulators, or used to ramp up/ramp down the output amplitude.", 43 P3 (in) "Data pins used for modulation (FSK, PSK, ASK), to start/stop for the sweep   accumulators, or used to ramp up/ramp down the output amplitude.", 44 DGND (power) "Digital Power Ground Pin.", 45 DVDD (power) "Digital Power Supply Pin (1.8 V)", 46 I/O_UPD (in) "A rising edge transfers data from the serial I/O port buffer to active registers.", 47 ~{CS} (in) "Active Low Chip Select.", 48 SCLK (in) "Serial Data Clock for I/O Operations.", 49 DVDD I/O (power) "3.3 V Digital Power Supply for SPI Port and Digital I/O.", 50 SDIO_0 (io) "Data Pin SDIO_0 is dedicated to the serial port I/O only.", 51 SDIO_1 (io) "Data pins SDIO_1 can be used for the I/O port", 52 SDIO_2 (io) "Data pins SDIO_2 can be used for the I/O port", 53 SDIO_3 (io) "Data pins SDIO_3 can be used for the I/O port", 54 SYNCL (out) "The SYNC_CLK runs at one fourth the system clock rate.", 55 DVDD (power) "Digital Power Supply Pin (1.8 V)", 56 DGND (power) "Digital Power Ground Pin.", EPAD (power) hidden to GND "Exposed Paddle. The exposed paddle must be connected to AGND."
text: DDS; AD9958

## ADA4622-1ARJZ
designator D?  (value not drawn)
30 V, 8 MHz, Low Bias Current, Single-Supply, RRO, Precision Op Amp; Manufacturer: Analog Devices; Type: Микросхема; SymAuthor: Ерешко П.А.; Package: RJ-5; ManufacturerPartNumber: ADA4622-1ARJZ
footprint SOT23-5 (5-Lead Small Outline Transistor Package)
pins: 1 OUT (out), 2 V- (power) "0V power pin", 3 IN+ (in), 4 IN- (in), 5 V+ (power) "5 V to 30 V power pin"
text: ADA; 4622

## ADA4807-1AKSZ
designator D?  (value not drawn)
3.1 nV/√Hz, 1 mA, 180 MHz,  Rail-to-Rail Input/Output Amplifiers; Manufacturer: Analog Devices; Type: Микросхема; Package: KS-6; ManufacturerPartNumber: ADA4807-1AKSZ
footprint SC70-6 (6-Lead Plastic SC70)
pins: 1 OUT (out), 2 -V (power) "Negative Supply", 3 +IN (in) "Noninverting Input", 4 -IN (in) "Inverting Input", 5 ~{DIS} (in) "Active Low Power-Down", 6 +V (power) "Positive Supply"
text: ADA; 4807-1

## ADA4895-1ARJZ
designator D?  (value not drawn)
Low Power, 1 nV/√Hz, G ≥ 10 Stable, Rail-to-Rail  Output Amplifier; Manufacturer: Analog Devices; Type: Микросхема; BCPId: *; Name: *; Package: SOT-23 (RJ-6); ManufacturerPartNumber: ADA4895-1ARJZ
footprint SOT95P280X145-6N (SOT23, 6-Leads, Body 1,6x2,9mm, Pitch 0,95mm)
pins: 1 OUT (out), 2 -VS (power) "0V power pin", 3 +IN (in), 4 -IN (in), 5 DIS (power) "5 V to 30 V power pin", 6 +VS (power) "5 V to 30 V power pin"
text: ADA4895

## ADA4895-1ARZ
designator D?  (value not drawn)
Low Power, 1 nV/√Hz, G ≥ 10 Stable, Rail-to-Rail  Output Amplifier; Manufacturer: Analog Devices; Type: Микросхема; BCPId: *; Name: *; Package: 8-Lead SOIC (R-8); ManufacturerPartNumber: ADA4895-1ARZ
footprint SOIC127P600-8M (SOIC, 8-Leads, Body 4.9x3.9mm, Pitch 1.27mm, IPC Low Density)
pins: 1 NC hidden, 2 -IN (in), 3 +IN (in), 4 -VS (power) "0V power pin", 5 NC (power) hidden, 6 OUT (out), 7 +VS (power) "5 V to 30 V power pin", 8 DIS (power) "5 V to 30 V power pin"
text: ADA4895

## ADA4898-1YRDZ
designator D?  (value not drawn)
High Voltage, Low Noise, Low Distortion,  Unity-Gain Stable, High Speed Op Amp; Manufacturer: Analog Devices; Type: Микросхема; SymAuthor: Юдин Д.Г.; BCPId: *; Name: *; Package: RD-8-1; ManufacturerPartNumber: ADA4898-1YRDZ
footprint SOP127P600X175_HS-9N (SOP, 8-Leads, Body 4,90x3,90mm, Pitch 1,27mm, Thermal Pad 2,29x2,29mm, IPC Medium Density)
pins: 1 NC hidden, 2 -IN (in), 3 +IN (in), 4 -VS (power) "0V power pin", 5 NC hidden, 6 OUT (out), 7 +VS (power) "5 V to 30 V power pin", 8 PD (in) "Power Down Not", EPAD (power) hidden to GND "PAD"
text: ADA4898

## ADA4937-1
designator D?, comment ADA4937-1****-**  (value not drawn)
Ultralow Distortion  Differential ADC Driver; Manufacturer: Analog Devices; Type: Микросхема; SymAuthor: Ерешко П.А.; BCPId: *; Name: *; Package: CP-16-21; ManufacturerPartNumber: ADA4937-1****-**
footprint QFN50P300X300X80_HS145x145-17N (QFN, 16-Leads, Body 3,00x3,00mm, Pitch 0,50mm, Thermal Pad 1,45x1,45mm, IPC Medium Density)
pins: 1 -FB (out) "Negative Output for Feedback Component Connection", 2 +IN (in) "Positive Input Summing Node", 3 -IN (in) "Negative Input Summing Node", 4 +FB (out) "Positive Output for Feedback  Component Connection", 5 +Vs (power) "Positive Supply Voltage", 6 +Vs (power) "Positive Supply Voltage", 7 +Vs (power) "Positive Supply Voltage", 8 +Vs (power) "Positive Supply Voltage", 9 OCM (out) "Output Common-Mode Voltage", 10 +OUT (out) "Positive Output for Load Connection", 11 -OUT (out) "Negative Output for Load Connection", 12 ~{PD} (in) "Power-Down Pin", 13 -Vs (power) "Negative Supply Voltage", 14 -Vs (power) "Negative Supply Voltage", 15 -Vs (power) "Negative Supply Voltage", 16 -Vs (power) "Negative Supply Voltage"
text: ADA; 4937-1

## ADCLK905BCPZ
designator D?  (value not drawn)
Ultrafast SiGe ECL Clock/Data Buffer; Manufacturer: Analog Devices; Type: Микросхема; SymAuthor: Ерешко П.А.; BCPId: *; Name: *; Package: CP-16-3; ManufacturerPartNumber: ADCLK905BCPZ; HelpURL: *; Price: *; Rem: *; TU/GOST: *
footprint QFN50P300X300X90_HS165x165-17N (QFN, 16-Leads, Body 3,00x3,00mm, Pitch 0,50mm, Thermal Pad 1,65x1,65mm, IPC Medium Density)
pins: 1 D (in) "Differential input positive", 2 ~{D} (in) "Differential input negative", 3 hidden "No connection", 4 hidden "No connection", 5 hidden "No connection", 6 hidden "No connection", 7 Vee (power) "Negative Supply Voltage", 8 Vcc (power) "Positive Supply Voltage", 9 NC hidden "No Connect.", 10 NC hidden "No Connect.", 11 ~{Q} (out) "Differential LVPECL output", 12 Q (out) "Differential LVPECL output", 13 Vcc (power) "Positive Supply Voltage", 14 Vee (power) "Negative Supply Voltage", 15 Vref "Reference voltage for biasing ac-coupled inputs", 16 Vt (power) "Center tap of 100 Ohm input resistor", EPAD NC hidden "No Connect."
text: F; ADCLK; 905

## ADCLK925BCPZ
designator D?  (value not drawn)
Ultrafast SiGe ECL Clock/Data Buffers; Manufacturer: Analog Devices; Type: Микросхема; BCPId: *; Name: *; Package: CP-16-3; ManufacturerPartNumber: ADCLK925BCPZ; HelpURL: *; Price: *; Rem: *; TU/GOST: *
footprint QFN50P300X300X90_HS165x165-17N (QFN, 16-Leads, Body 3,00x3,00mm, Pitch 0,50mm, Thermal Pad 1,65x1,65mm, IPC Medium Density)
pins: 1 D (in) "Differential input positive", 2 ~{D} (in) "Differential input negative", 3 hidden "No connection", 4 hidden "No connection", 5 hidden "No connection", 6 hidden "No connection", 7 Vee (power) "Negative Supply Voltage", 8 Vcc (power) "Positive Supply Voltage", 9 ~{Q2} (out) "Differential LVPECL output", 10 Q2 (out) "Differential LVPECL output", 11 ~{Q1} (out) "Differential LVPECL output", 12 Q1 (out) "Differential LVPECL output", 13 Vcc (power) "Positive Supply Voltage", 14 Vee (power) "Negative Supply Voltage", 15 Vref "Reference voltage for biasing ac-coupled inputs", 16 Vt (power) "Center tap of 100 Ohm input resistor", EPAD NC hidden "No Connect."
text: F; ADCLK; 925

## ADCLK944BCPZ
designator D?  (value not drawn)
Four LVPECL Outputs,  SiGe Clock Fanout Buffer; Manufacturer: Analog Devices; Type: Микросхема; SymAuthor: Антонов М.С.; BCPId: *; HelpURL: *; ManufacturerPartNumber: ADCLK944BCPZ; Name: *; Package: CP-16-18; Price: *; Rem: *; TU/GOST: *
footprint QFN50P300X300X80_HS160x160-17N (QFN, 16-Leads, Body 3,00x3,00mm, Pitch 0,50mm, Thermal Pad 1,60x1,60mm, IPC Medium Density)
pins: 1 CLK  (in) "Differential Input (Positive).", 2 VT  (in) "Center Tap. This pin provides the center tap of a 100 Ω input resistor for the CLK and CLKinputs.", 3 VREF  (power) "Reference Voltage. This pin provides the reference voltage for biasing ac-coupled CLK and CLKinputs.", 4 ~{CLK} (in) "Differential Input (Negative).", 5 VEE  (power) "Negative Supply Pin.", 6 ~{Q3} (out) "Differential LVPECL Outputs.", 7 Q3 (out) "Differential LVPECL Outputs.", 8 VCC (power) "Positive Supply Pin.", 9 ~{Q2} (out) "Differential LVPECL Outputs.", 10 Q2 (out) "Differential LVPECL Outputs.", 11 ~{Q1} (out) "Differential LVPECL Outputs.", 12 Q1 (out) "Differential LVPECL Outputs.", 13 VCC (power) "Positive Supply Pin.", 14 ~{Q0} (out) "Differential LVPECL Outputs.", 15 Q0 (out) "Differential LVPECL Outputs.", 16 VEE  (power) "Negative Supply Pin.", EPAD (power) "The exposed pad must be connected to VEE."
text: F; ADCLK; 944; 17

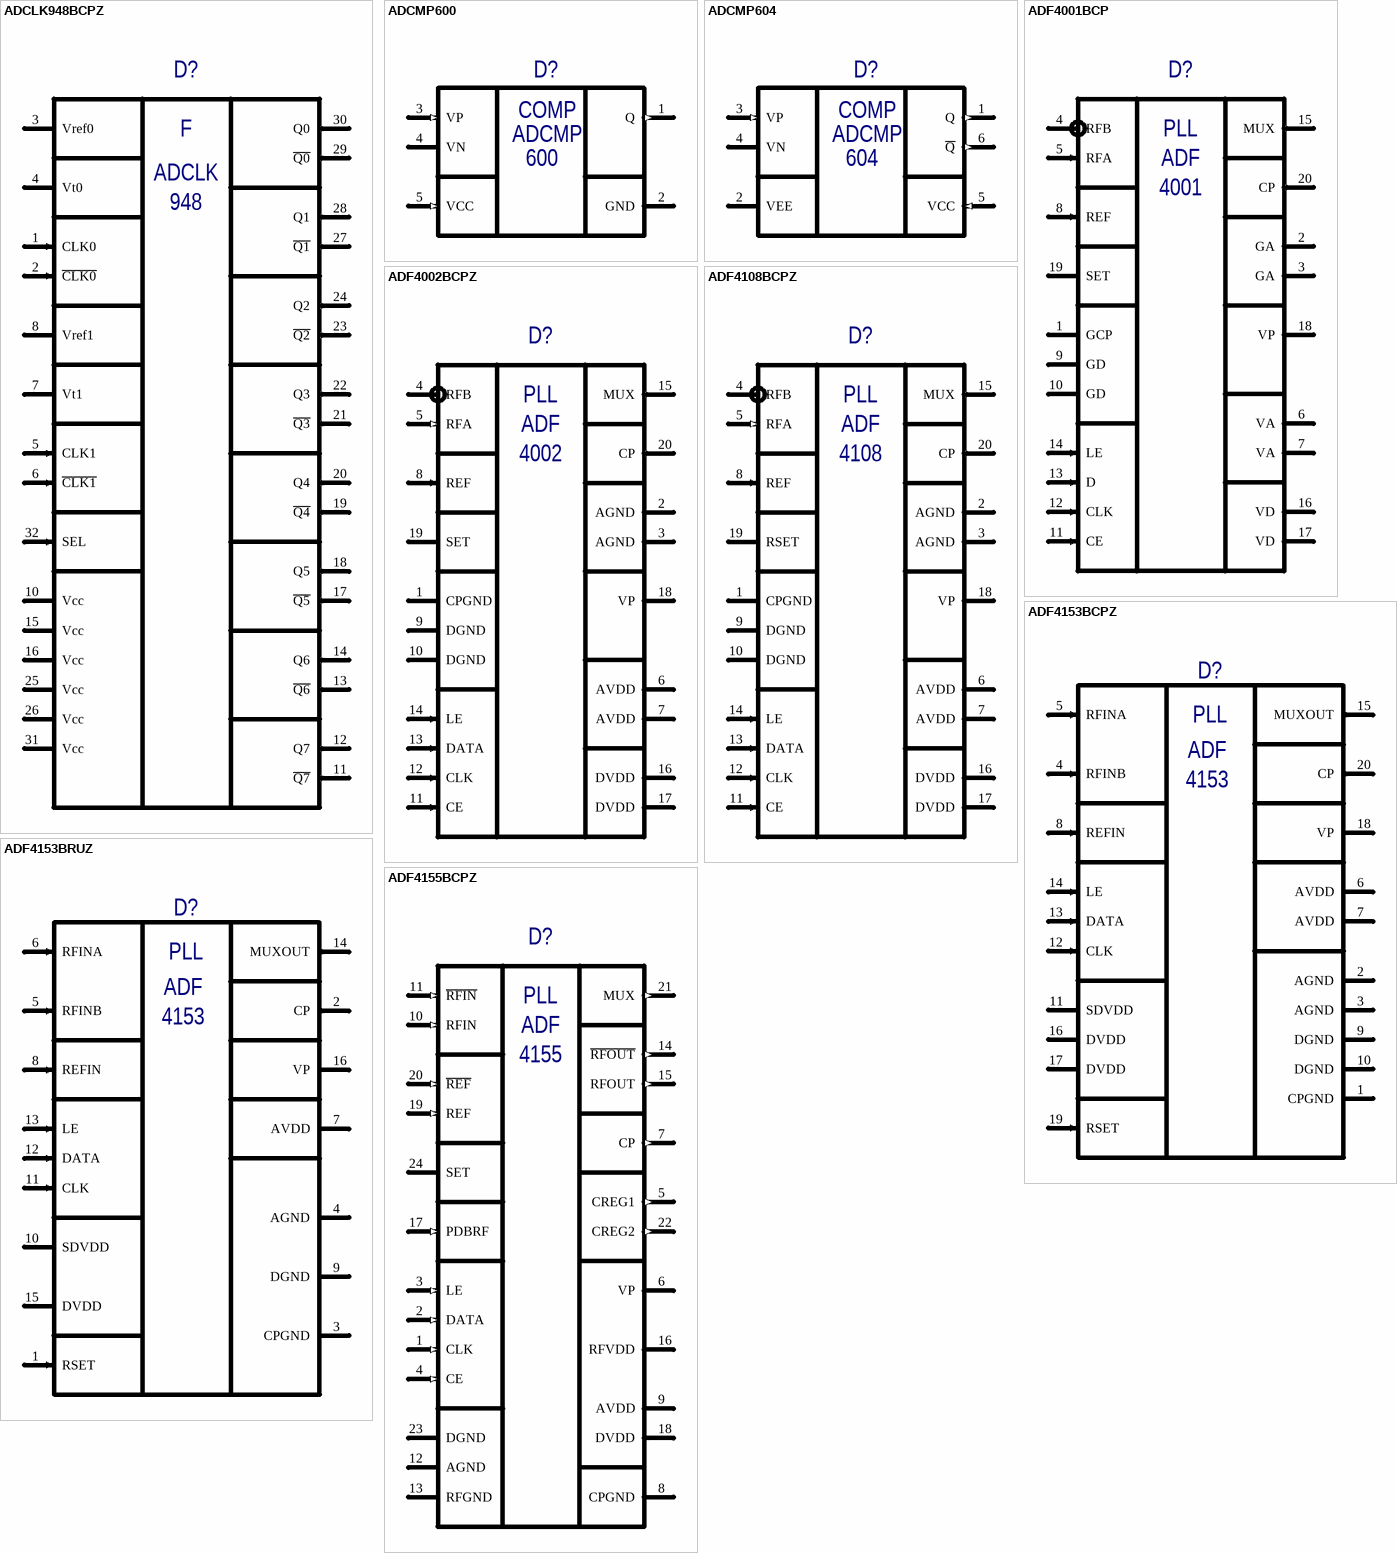
[diagram p9: symbols ADCLK948BCPZ to ADF4155BCPZ]

## ADCLK948BCPZ
designator D?  (value not drawn)
Two Selectable Inputs, 8 LVPECL Outputs, SiGe Clock Fanout Buffer; Manufacturer: Analog Devices; Type: Микросхема; BCPId: *; Name: *; Package: CP-32-4; ManufacturerPartNumber: ADCLK948BCPZ; HelpURL: *; Price: *; Rem: *; TU/GOST: *
footprint QFN50P500X500X100-32N+285x285 (QFN, 32-Leads, Body 5,0x5,0mm (max), Pitch 0,50mm, IPC Medium Density with thermal tab 2.85x2.85)
pins: 1 CLK0 (in) "Differential input positive 0", 2 ~{CLK0} (in) "Differential input negative 0", 3 Vref0 "Reference voltage for biasing ac-coupled CLK0 and CLK0 inputs", 4 Vt0 "Center tap of a 100 Ohm input resistor for CLK0 and CLK0 inputs", 5 CLK1 (in) "Differential input positive 1", 6 ~{CLK1} (in) "Differential input negative 1", 7 Vt1 "Center tap of a 100 Ohm input resistor for CLK1 and CLK1 inputs", 8 Vref1 "Reference voltage for biasing ac-coupled CLK1 and CLK1 inputs", 9 NC hidden "No connection", 10 Vcc (power) "3.3 V Power Pin", 11 ~{Q7} (out) "Differential LVPECL output", 12 Q7 (out) "Differential LVPECL output", 13 ~{Q6} (out) "Differential LVPECL output", 14 Q6 (out) "Differential LVPECL output", 15 Vcc (power) "3.3 V Power Pin", 16 Vcc (power) "3.3 V Power Pin", 17 ~{Q5} (out) "Differential LVPECL output", 18 Q5 (out) "Differential LVPECL output", 19 ~{Q4} (out) "Differential LVPECL output", 20 Q4 (out) "Differential LVPECL output", 21 ~{Q3} (out) "Differential LVPECL output", 22 Q3 (out) "Differential LVPECL output", 23 ~{Q2} (out) "Differential LVPECL output", 24 Q2 (out) "Differential LVPECL output", 25 Vcc (power) "3.3 V Power Pin", 26 Vcc (power) "3.3 V Power Pin", 27 ~{Q1} (out) "Differential LVPECL output", 28 Q1 (out) "Differential LVPECL output", 29 ~{Q0} (out) "Differential LVPECL output", 30 Q0 (out) "Differential LVPECL output", 31 Vcc (power) "3.3 V Power Pin", 32 SEL (in) "Input Select. Logic 0 selects CLK0 inputs. Logic 1 selects CLK1 inputs.", EPAD (power) hidden to GND "The exposed die pad must be connected to GND"
text: F; ADCLK; 948

## ADCMP600
designator D?, comment ADCMP600BKSZ  (value not drawn)
Rail-to-Rail, Very Fast, 2.5 V to 5.5 V,  Single-Supply TTL/CMOS Comparator; Manufacturer: Analog Devices, Inc.; Type: Микросхема; BCPId: *; Name: *; Package: SC70 5-Lead (KS-5); ManufacturerPartNumber: ADCMP600BKSZ
footprint SOT65P210X110-5N (SOT, 5-Leads, Body 1,25x2,00mmx1.10 (max), Pitch 0,65mm)
pins: 1 Q (out) "Noninverting Output", 2 GND (power), 3 VP (in) "Noninverting Analog Input", 4 VN (power) "Inverting Analog Input", 5 VCC (in) "Input Section Supply/Output Section Supply"
text: COMP; ADCMP; 600

## ADCMP604
designator D?, comment ADCMP604BKSZ  (value not drawn)
Rail-to-Rail, Very Fast, 2.5 V to 5.5 V, Single-Supply LVDS Comparators; Manufacturer: Analog Devices, Inc.; Type: Микросхема; SymAuthor: Радионова А.С,; BCPId: *; Name: *; Package: 6-Lead Thin Shrink Small Outline Transistor Package [SC70; ManufacturerPartNumber: ADCMP604BKSZ
footprint SOT65P210X110-6N(SC70) (SOT23, 6-Leads, Body 2,00x2,10mm, Pitch 0,65mm, IPC Medium Density)
pins: 1 Q (out) "Noninverting Output", 2 VEE (power) "Negative Supply Voltage", 3 VP (in) "Noninverting Analog Input", 4 VN (power) "Inverting Analog Input", 5 VCC (in) "Input Section Supply/Output Section Supply", 6 ~{Q} (out) "Inverting Outpu t. Q is at  logic low if the analog voltage at the noninverting input, VP, is greater than the analog   voltage at the inverting input, VN"
text: COMP; ADCMP; 604

## ADF4001BCP
designator D?  (value not drawn)
200 MHz Clock Generator PLL; Manufacturer: Analog Devices; Type: Микросхема; BCPId: *; Name: *; Package: CP-20; ManufacturerPartNumber: ADF4001BCP
footprint QFN50P400X400X100-20N (QFN, 20-Leads, Body 4,0x4,0mm (max), Pitch 0,50mm, IPC Medium Density)
pins: 1 GCP (power) "Charge Pump Ground", 2 GA (power) "Analog Ground", 3 GA (power) "Analog Ground", 4 RFB (in) "Complementary Input to the N counter", 5 RFA (in) "Input to the N counter", 6 VA (power) "Analog Power Supply", 7 VA (power) "Analog Power Supply", 8 REF (in) "Reference Input", 9 GD (power) "Digital Ground", 10 GD (power) "Digital Ground", 11 CE (in) "Chip Enable", 12 CLK (in) "Serial Clock Input", 13 D (in) "Serial Data Input", 14 LE (in) "Load Enable", 15 MUX (out) "Multiplexer output", 16 VD (power) "Digital Power Supply", 17 VD (power) "Digital Power Supply", 18 VP (power) "Charge Pump Power Supply", 19 SET "Sets the maximum charge pump output current", 20 CP (out) "Charge Pump Output", EPAD hidden to GND "The user should connect thermal pad to AGND"
text: PLL; ADF; 4001

## ADF4002BCPZ
designator D?  (value not drawn)
Phase Detector/Frequency Synthesizer; Manufacturer: Analog Devices; Type: Микросхема; BCPId: *; Name: *; Package: CP-20-1 (LFCSP_VQ); ManufacturerPartNumber: ADF4002BCPZ
footprint QFN50P400X400X100-20N (QFN, 20-Leads, Body 4,0x4,0mm (max), Pitch 0,50mm, IPC Medium Density)
pins: 1 CPGND (power) "Charge Pump Ground", 2 AGND (power) "Analog Ground", 3 AGND (power) "Analog Ground", 4 RFB (in) "Complementary Input to the RF Input", 5 RFA (in) "Complementary Input to the N counter", 6 AVDD (power) "Analog Power Supply", 7 AVDD (power) "Analog Power Supply", 8 REF (in) "Reference Input", 9 DGND (power) "Digital Ground", 10 DGND (power) "Digital Ground", 11 CE (in) "Chip Enable", 12 CLK (in) "Serial Clock Input", 13 DATA (in) "Serial Data Input", 14 LE (in) "Load Enable", 15 MUX (out) "Multiplexer output", 16 DVDD (power) "Digital Power Supply", 17 DVDD (power) "Digital Power Supply", 18 VP (power) "Charge Pump Power Supply", 19 SET (power) "Sets the maximum charge pump output current", 20 CP (out) "Charge Pump Output", EPAD (power) hidden to GND "The user should connect thermal pad to AGND"
text: PLL; ADF; 4002

## ADF4108BCPZ
designator D?  (value not drawn)
PLL Frequency Synthesizer; Manufacturer: Analog Devices; Type: Микросхема; SymAuthor: Юдин Д.Г.; BCPId: *; Name: *; Package: CP-20-6 (LFCSP_WQ); ManufacturerPartNumber: ADF4108BCPZ
footprint QFN50P400X400X100-20N (QFN, 20-Leads, Body 4,0x4,0mm (max), Pitch 0,50mm, IPC Medium Density)
pins: 1 CPGND (power) "Charge Pump Ground", 2 AGND (power) "Analog Ground", 3 AGND (power) "Analog Ground", 4 RFB (in) "Complementary Input to the RF Input", 5 RFA (in) "Complementary Input to the N counter", 6 AVDD (power) "Analog Power Supply", 7 AVDD (power) "Analog Power Supply", 8 REF (in) "Reference Input", 9 DGND (power) "Digital Ground", 10 DGND (power) "Digital Ground", 11 CE (in) "Chip Enable", 12 CLK (in) "Serial Clock Input", 13 DATA (in) "Serial Data Input", 14 LE (in) "Load Enable", 15 MUX (out) "Multiplexer output", 16 DVDD (power) "Digital Power Supply", 17 DVDD (power) "Digital Power Supply", 18 VP (power) "Charge Pump Power Supply", 19 RSET (power) "Sets the maximum charge pump output current", 20 CP (out) "Charge Pump Output", EPAD (power) hidden to GND "The user should connect thermal pad to AGND"
text: PLL; ADF; 4108

## ADF4153BCPZ
designator D?  (value not drawn)
4 GHz Microwave PLL Synthesizer; Manufacturer: Analog Devices; Type: Микросхема; SymAuthor: Юдин Д.Г.; BCPId: *; Package: CP-20-1; ManufacturerPartNumber: ADF4153BCPZ
footprint QFN50P400X400X100-20N (QFN, 20-Leads, Body 4,0x4,0mm (max), Pitch 0,50mm, IPC Medium Density)
pins: 1 CPGND (power) "CP GND", 2 AGND (power) "Analog GND", 3 AGND (power) "Analog GND", 4 RFINB (in), 5 RFINA (in), 6 AVDD (power) "Analog Power Supply", 7 AVDD (power) "Analog Power Supply", 8 REFIN (in) "Reference Input. This is a CMOS input with a nominal threshold of DVDD/2 and a dc equivalent input   resistance of 100 kΩ", 9 DGND (power) "Digital GND", 10 DGND (power) "Digital GND", 11 SDVDD (power) "SDVdd", 12 CLK (in) "Serial Clock Input", 13 DATA (in) "Serial Data Input", 14 LE (in) "Load Enable", 15 MUXOUT (out) "This multiplexer output allows either the lock detect, the scaled RF, or the scaled reference frequency to be   accessed externally.", 16 DVDD (power) "Digital Power Supply", 17 DVDD (power) "Digital Power Supply", 18 VP (power) "Charge Pump Power Supply.", 19 RSET (in) "Rset", 20 CP (out) "Charge Pump Output", EPAD (power) hidden to GND "Exposed Pad. The exposed pad must be connected to GND."
text: PLL; ADF; 4153

## ADF4153BRUZ
designator D?  (value not drawn)
4 GHz Microwave PLL Synthesizer; Manufacturer: Analog Devices; Type: Микросхема; BCPId: *; Package: RU-16; ManufacturerPartNumber: ADF4153BRUZ
footprint SOP65P640X120-16N (SOP, 16-Leads, Body 5,00x4,40mm, Pitch 0,65mm, IPC Medium Density)
pins: 1 RSET (in) "Rset", 2 CP (out) "Charge Pump Output", 3 CPGND (power) "CP GND", 4 AGND (power) "Analog GND", 5 RFINB (in), 6 RFINA (in), 7 AVDD (power) "Analog Power Supply", 8 REFIN (in) "Reference Input. This is a CMOS input with a nominal threshold of DVDD/2 and a dc equivalent input   resistance of 100 kΩ", 9 DGND (power) "Digital GND", 10 SDVDD (power) "SDVdd", 11 CLK (in) "Serial Clock Input", 12 DATA (in) "Serial Data Input", 13 LE (in) "Load Enable", 14 MUXOUT (out) "This multiplexer output allows either the lock detect, the scaled RF, or the scaled reference frequency to be   accessed externally.", 15 DVDD (power) "Digital Power Supply", 16 VP (power) "Charge Pump Power Supply."
text: PLL; ADF; 4153

## ADF4155BCPZ
designator D?  (value not drawn)
Integer-N/Fractional-N PLL Synthesizer; Manufacturer: Analog Devices; Type: Микросхема; SymAuthor: Юдин Д.Г.; BCPId: *; Name: *; Package: CP-24-7; ManufacturerPartNumber: ADF4155BCPZ
footprint QFN50P400X400X80_HS-25N (QFN, 24-Leads, Body 4,00x4,00mm, Pitch 0,50mm, Thermal Pad 2,75x2,75mm, IPC Medium Density)
pins: 1 CLK (in) "Serial Clock Input.", 2 DATA (in) "Serial Data Input", 3 LE (in) "Load Enable Input.", 4 CE (in) "Chip Enable.", 5 CREG1 (out) "Output of Internal LDO.", 6 VP (power) "Charge Pump Power Supply.", 7 CP (out) "Charge Pump Output.", 8 CPGND (power) "Charge Pump Ground.", 9 AVDD (power) "Analog Power Supply.", 10 RFIN (in) "RF Input", 11 ~{RFIN} (in) "Complementary RF Input.", 12 AGND (power) "Analog Ground.", 13 RFGND (power) "RF Ground.", 14 ~{RFOUT} (out) "Complementary RF Output.", 15 RFOUT (out) "RF Output.", 16 RFVDD (power) "Analog Power Supply for RF Outputs.", 17 PDBRF (in) "RF Power-Down.", 18 DVDD (power) "Digital Power Supply", 19 REF (in) "Reference Input.", 20 ~{REF} (in) "Complementary Reference Input.", 21 MUX (out) "Multiplexer output", 22 CREG2 (out) "Output of Internal LDO.", 23 DGND (power) "Digital Ground", 24 SET (power) "Connect a resistor between this pin and ground to set the charge pump output current.", EPAD (power) hidden to GND "The user should connect thermal pad to AGND"
text: PLL; ADF; 4155

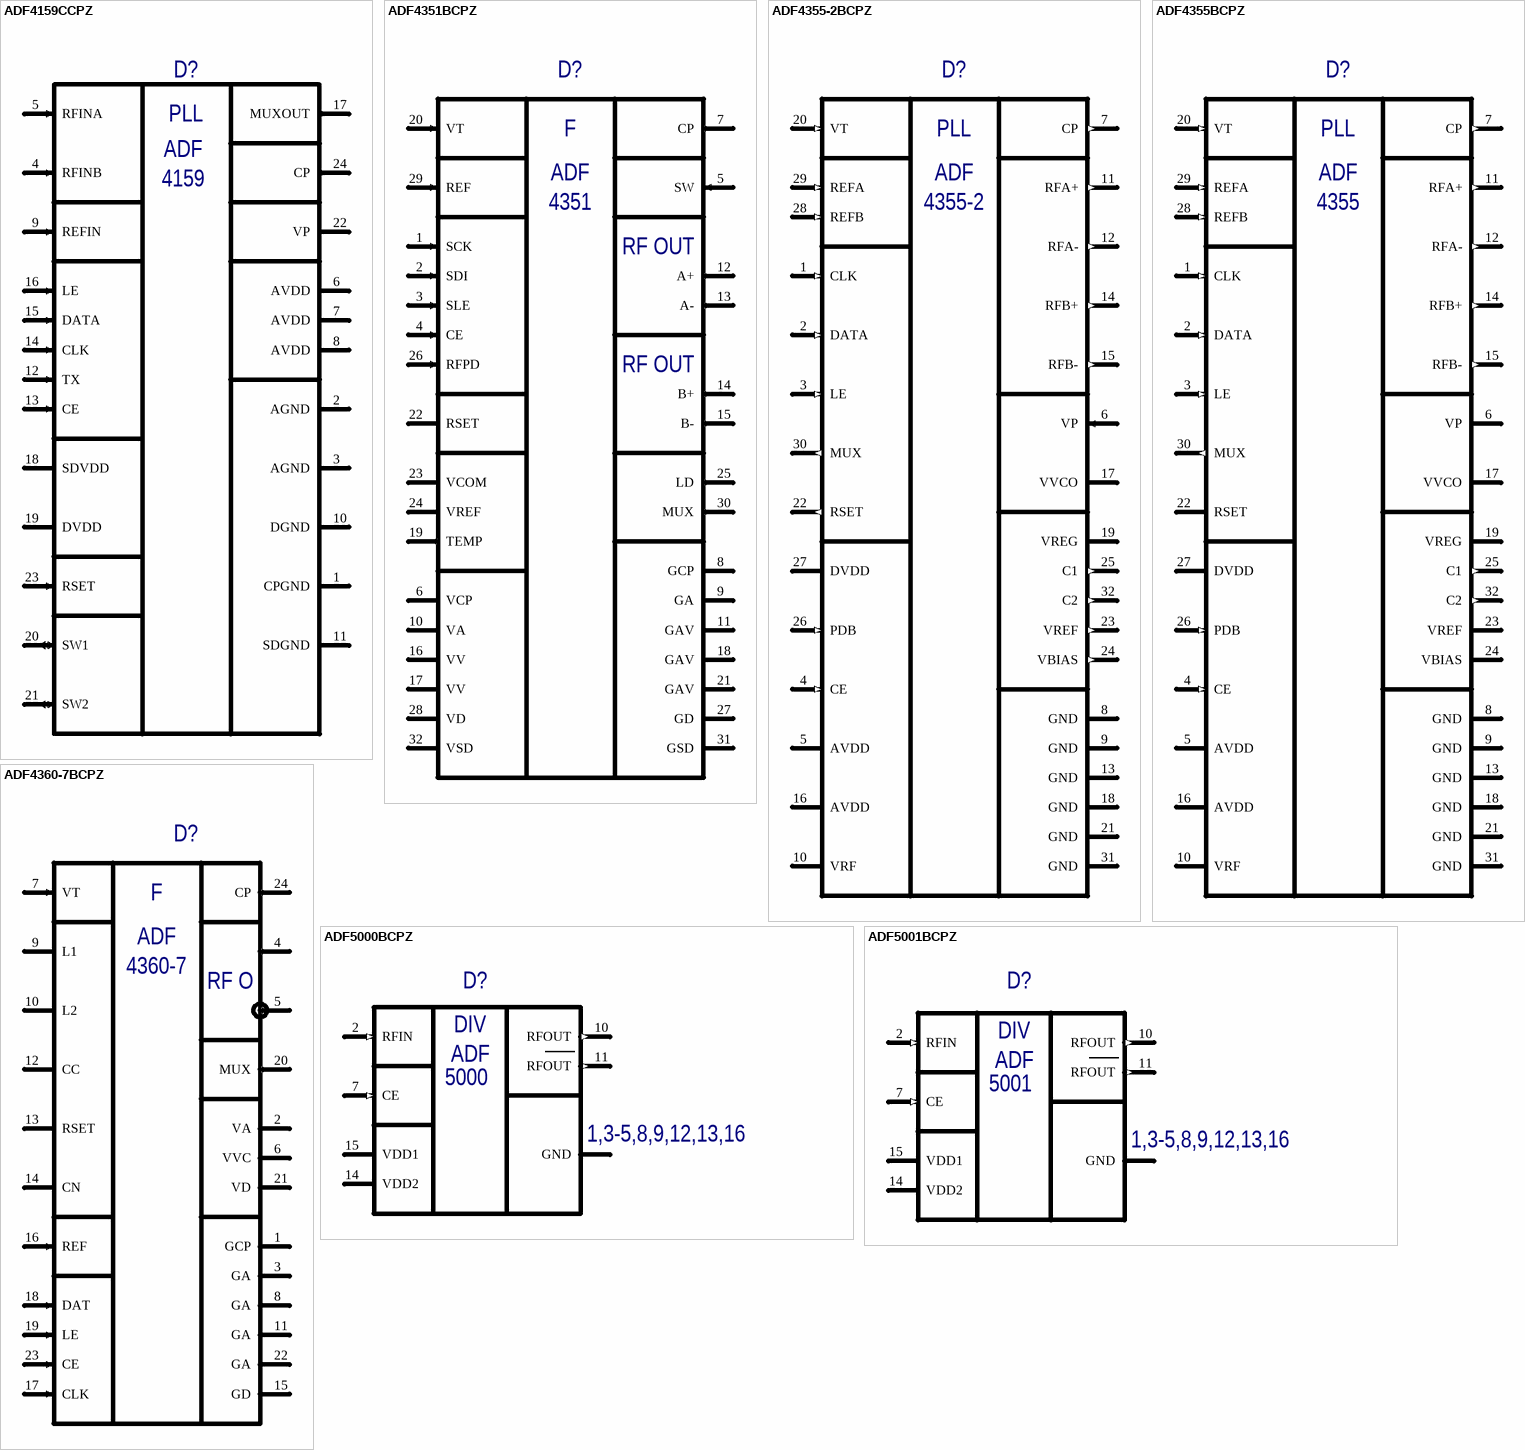
[diagram p10: symbols ADF4159CCPZ to ADF5001BCPZ]